# Altium schematic symbol library FM_MCU.SCHLIB: 33 symbols
Pins are listed as number, name and electrical type; pins without a type are passive.

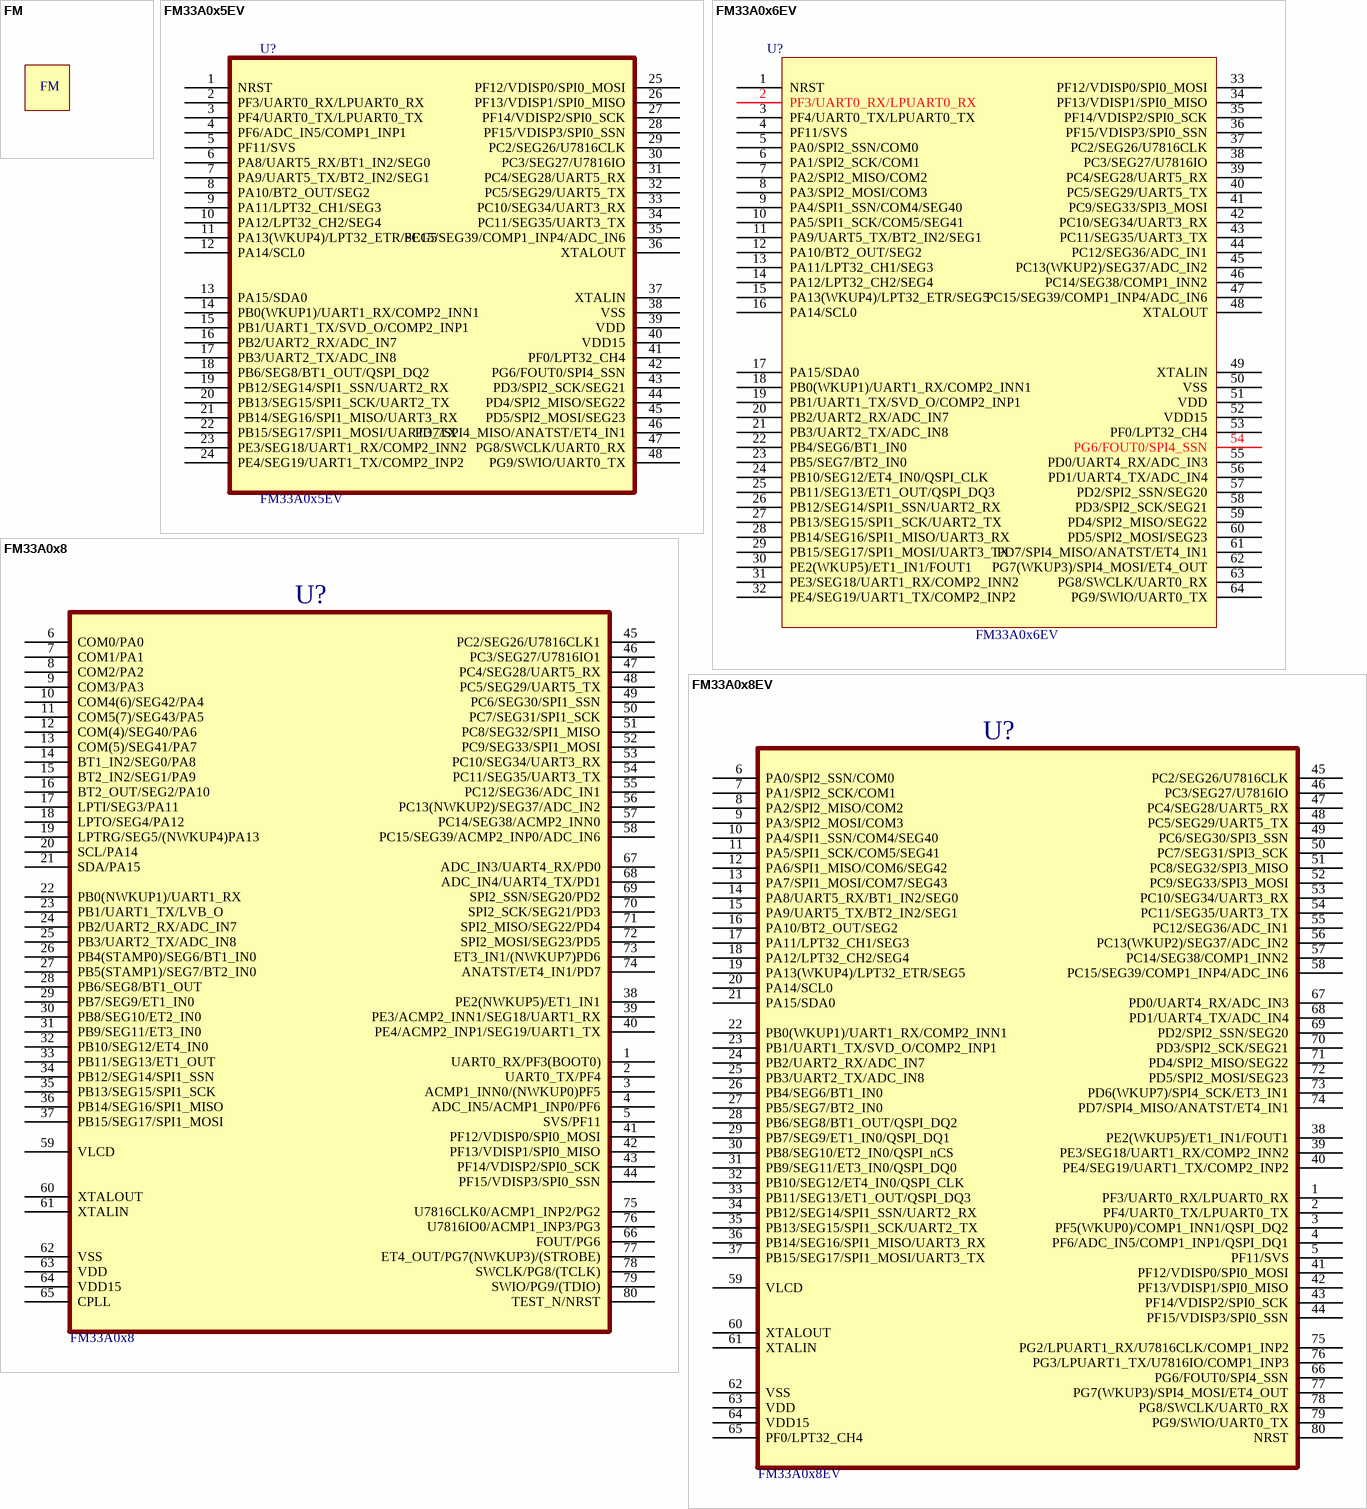
[diagram p0: symbols FM to FM33A0x8EV]

## FM
designator U?, comment FM-LOGO
footprint FM-LOGO

## FM33A0x5EV
designator U?
footprint LQFP48
pins: 1 NRST, 2 PF3/UART0_RX/LPUART0_RX, 3 PF4/UART0_TX/LPUART0_TX, 4 PF6/ADC_IN5/COMP1_INP1, 5 PF11/SVS, 6 PA8/UART5_RX/BT1_IN2/SEG0, 7 PA9/UART5_TX/BT2_IN2/SEG1, 8 PA10/BT2_OUT/SEG2, 9 PA11/LPT32_CH1/SEG3, 10 PA12/LPT32_CH2/SEG4, 11 PA13(WKUP4)/LPT32_ETR/SEG5, 12 PA14/SCL0, 13 PA15/SDA0, 14 PB0(WKUP1)/UART1_RX/COMP2_INN1, 15 PB1/UART1_TX/SVD_O/COMP2_INP1, 16 PB2/UART2_RX/ADC_IN7, 17 PB3/UART2_TX/ADC_IN8, 18 PB6/SEG8/BT1_OUT/QSPI_DQ2, 19 PB12/SEG14/SPI1_SSN/UART2_RX, 20 PB13/SEG15/SPI1_SCK/UART2_TX, 21 PB14/SEG16/SPI1_MISO/UART3_RX, 22 PB15/SEG17/SPI1_MOSI/UART3_TX, 23 PE3/SEG18/UART1_RX/COMP2_INN2, 24 PE4/SEG19/UART1_TX/COMP2_INP2, 25 PF12/VDISP0/SPI0_MOSI, 26 PF13/VDISP1/SPI0_MISO, 27 PF14/VDISP2/SPI0_SCK, 28 PF15/VDISP3/SPI0_SSN, 29 PC2/SEG26/U7816CLK, 30 PC3/SEG27/U7816IO, 31 PC4/SEG28/UART5_RX, 32 PC5/SEG29/UART5_TX, 33 PC10/SEG34/UART3_RX, 34 PC11/SEG35/UART3_TX, 35 PC15/SEG39/COMP1_INP4/ADC_IN6, 36 XTALOUT, 37 XTALIN, 38 VSS, 39 VDD, 40 VDD15, 41 PF0/LPT32_CH4, 42 PG6/FOUT0/SPI4_SSN, 43 PD3/SPI2_SCK/SEG21, 44 PD4/SPI2_MISO/SEG22, 45 PD5/SPI2_MOSI/SEG23, 46 PD7/SPI4_MISO/ANATST/ET4_IN1, 47 PG8/SWCLK/UART0_RX, 48 PG9/SWIO/UART0_TX

## FM33A0x6EV
designator U?
footprint LQFP64
pins: 1 NRST, 2 PF3/UART0_RX/LPUART0_RX, 3 PF4/UART0_TX/LPUART0_TX, 4 PF11/SVS, 5 PA0/SPI2_SSN/COM0, 6 PA1/SPI2_SCK/COM1, 7 PA2/SPI2_MISO/COM2, 8 PA3/SPI2_MOSI/COM3, 9 PA4/SPI1_SSN/COM4/SEG40, 10 PA5/SPI1_SCK/COM5/SEG41, 11 PA9/UART5_TX/BT2_IN2/SEG1, 12 PA10/BT2_OUT/SEG2, 13 PA11/LPT32_CH1/SEG3, 14 PA12/LPT32_CH2/SEG4, 15 PA13(WKUP4)/LPT32_ETR/SEG5, 16 PA14/SCL0, 17 PA15/SDA0, 18 PB0(WKUP1)/UART1_RX/COMP2_INN1, 19 PB1/UART1_TX/SVD_O/COMP2_INP1, 20 PB2/UART2_RX/ADC_IN7, 21 PB3/UART2_TX/ADC_IN8, 22 PB4/SEG6/BT1_IN0, 23 PB5/SEG7/BT2_IN0, 24 PB10/SEG12/ET4_IN0/QSPI_CLK, 25 PB11/SEG13/ET1_OUT/QSPI_DQ3, 26 PB12/SEG14/SPI1_SSN/UART2_RX, 27 PB13/SEG15/SPI1_SCK/UART2_TX, 28 PB14/SEG16/SPI1_MISO/UART3_RX, 29 PB15/SEG17/SPI1_MOSI/UART3_TX, 30 PE2(WKUP5)/ET1_IN1/FOUT1, 31 PE3/SEG18/UART1_RX/COMP2_INN2, 32 PE4/SEG19/UART1_TX/COMP2_INP2, 33 PF12/VDISP0/SPI0_MOSI, 34 PF13/VDISP1/SPI0_MISO, 35 PF14/VDISP2/SPI0_SCK, 36 PF15/VDISP3/SPI0_SSN, 37 PC2/SEG26/U7816CLK, 38 PC3/SEG27/U7816IO, 39 PC4/SEG28/UART5_RX, 40 PC5/SEG29/UART5_TX, 41 PC9/SEG33/SPI3_MOSI, 42 PC10/SEG34/UART3_RX, 43 PC11/SEG35/UART3_TX, 44 PC12/SEG36/ADC_IN1, 45 PC13(WKUP2)/SEG37/ADC_IN2, 46 PC14/SEG38/COMP1_INN2, 47 PC15/SEG39/COMP1_INP4/ADC_IN6, 48 XTALOUT, 49 XTALIN, 50 VSS, 51 VDD, 52 VDD15, 53 PF0/LPT32_CH4, 54 PG6/FOUT0/SPI4_SSN, 55 PD0/UART4_RX/ADC_IN3, 56 PD1/UART4_TX/ADC_IN4, 57 PD2/SPI2_SSN/SEG20, 58 PD3/SPI2_SCK/SEG21, 59 PD4/SPI2_MISO/SEG22, 60 PD5/SPI2_MOSI/SEG23, 61 PD7/SPI4_MISO/ANATST/ET4_IN1, 62 PG7(WKUP3)/SPI4_MOSI/ET4_OUT, 63 PG8/SWCLK/UART0_RX, 64 PG9/SWIO/UART0_TX

## FM33A0x8
designator U?
footprint LQFP80
pins: 1 UART0_RX/PF3(BOOT0), 2 UART0_TX/PF4, 3 ACMP1_INN0/(NWKUP0)PF5, 4 ADC_IN5/ACMP1_INP0/PF6, 5 SVS/PF11, 6 COM0/PA0, 7 COM1/PA1, 8 COM2/PA2, 9 COM3/PA3, 10 COM4(6)/SEG42/PA4, 11 COM5(7)/SEG43/PA5, 12 COM(4)/SEG40/PA6, 13 COM(5)/SEG41/PA7, 14 BT1_IN2/SEG0/PA8, 15 BT2_IN2/SEG1/PA9, 16 BT2_OUT/SEG2/PA10, 17 LPTI/SEG3/PA11, 18 LPTO/SEG4/PA12, 19 LPTRG/SEG5/(NWKUP4)PA13, 20 SCL/PA14, 21 SDA/PA15, 22 PB0(NWKUP1)/UART1_RX, 23 PB1/UART1_TX/LVB_O, 24 PB2/UART2_RX/ADC_IN7, 25 PB3/UART2_TX/ADC_IN8, 26 PB4(STAMP0)/SEG6/BT1_IN0, 27 PB5(STAMP1)/SEG7/BT2_IN0, 28 PB6/SEG8/BT1_OUT, 29 PB7/SEG9/ET1_IN0, 30 PB8/SEG10/ET2_IN0, 31 PB9/SEG11/ET3_IN0, 32 PB10/SEG12/ET4_IN0, 33 PB11/SEG13/ET1_OUT, 34 PB12/SEG14/SPI1_SSN, 35 PB13/SEG15/SPI1_SCK, 36 PB14/SEG16/SPI1_MISO, 37 PB15/SEG17/SPI1_MOSI, 38 PE2(NWKUP5)/ET1_IN1, 39 PE3/ACMP2_INN1/SEG18/UART1_RX, 40 PE4/ACMP2_INP1/SEG19/UART1_TX, 41 PF12/VDISP0/SPI0_MOSI, 42 PF13/VDISP1/SPI0_MISO, 43 PF14/VDISP2/SPI0_SCK, 44 PF15/VDISP3/SPI0_SSN, 45 PC2/SEG26/U7816CLK1, 46 PC3/SEG27/U7816IO1, 47 PC4/SEG28/UART5_RX, 48 PC5/SEG29/UART5_TX, 49 PC6/SEG30/SPI1_SSN, 50 PC7/SEG31/SPI1_SCK, 51 PC8/SEG32/SPI1_MISO, 52 PC9/SEG33/SPI1_MOSI, 53 PC10/SEG34/UART3_RX, 54 PC11/SEG35/UART3_TX, 55 PC12/SEG36/ADC_IN1, 56 PC13(NWKUP2)/SEG37/ADC_IN2, 57 PC14/SEG38/ACMP2_INN0, 58 PC15/SEG39/ACMP2_INP0/ADC_IN6, 59 VLCD, 60 XTALOUT, 61 XTALIN, 62 VSS, 63 VDD, 64 VDD15, 65 CPLL, 66 FOUT/PG6, 67 ADC_IN3/UART4_RX/PD0, 68 ADC_IN4/UART4_TX/PD1, 69 SPI2_SSN/SEG20/PD2, 70 SPI2_SCK/SEG21/PD3, 71 SPI2_MISO/SEG22/PD4, 72 SPI2_MOSI/SEG23/PD5, 73 ET3_IN1/(NWKUP7)PD6, 74 ANATST/ET4_IN1/PD7, 75 U7816CLK0/ACMP1_INP2/PG2, 76 U7816IO0/ACMP1_INP3/PG3, 77 ET4_OUT/PG7(NWKUP3)/(STROBE), 78 SWCLK/PG8/(TCLK), 79 SWIO/PG9/(TDIO), 80 TEST_N/NRST

## FM33A0x8EV
designator U?
footprint LQFP80
pins: 1 PF3/UART0_RX/LPUART0_RX, 2 PF4/UART0_TX/LPUART0_TX, 3 PF5(WKUP0)/COMP1_INN1/QSPI_DQ2, 4 PF6/ADC_IN5/COMP1_INP1/QSPI_DQ1, 5 PF11/SVS, 6 PA0/SPI2_SSN/COM0, 7 PA1/SPI2_SCK/COM1, 8 PA2/SPI2_MISO/COM2, 9 PA3/SPI2_MOSI/COM3, 10 PA4/SPI1_SSN/COM4/SEG40, 11 PA5/SPI1_SCK/COM5/SEG41, 12 PA6/SPI1_MISO/COM6/SEG42, 13 PA7/SPI1_MOSI/COM7/SEG43, 14 PA8/UART5_RX/BT1_IN2/SEG0, 15 PA9/UART5_TX/BT2_IN2/SEG1, 16 PA10/BT2_OUT/SEG2, 17 PA11/LPT32_CH1/SEG3, 18 PA12/LPT32_CH2/SEG4, 19 PA13(WKUP4)/LPT32_ETR/SEG5, 20 PA14/SCL0, 21 PA15/SDA0, 22 PB0(WKUP1)/UART1_RX/COMP2_INN1, 23 PB1/UART1_TX/SVD_O/COMP2_INP1, 24 PB2/UART2_RX/ADC_IN7, 25 PB3/UART2_TX/ADC_IN8, 26 PB4/SEG6/BT1_IN0, 27 PB5/SEG7/BT2_IN0, 28 PB6/SEG8/BT1_OUT/QSPI_DQ2, 29 PB7/SEG9/ET1_IN0/QSPI_DQ1, 30 PB8/SEG10/ET2_IN0/QSPI_nCS, 31 PB9/SEG11/ET3_IN0/QSPI_DQ0, 32 PB10/SEG12/ET4_IN0/QSPI_CLK, 33 PB11/SEG13/ET1_OUT/QSPI_DQ3, 34 PB12/SEG14/SPI1_SSN/UART2_RX, 35 PB13/SEG15/SPI1_SCK/UART2_TX, 36 PB14/SEG16/SPI1_MISO/UART3_RX, 37 PB15/SEG17/SPI1_MOSI/UART3_TX, 38 PE2(WKUP5)/ET1_IN1/FOUT1, 39 PE3/SEG18/UART1_RX/COMP2_INN2, 40 PE4/SEG19/UART1_TX/COMP2_INP2, 41 PF12/VDISP0/SPI0_MOSI, 42 PF13/VDISP1/SPI0_MISO, 43 PF14/VDISP2/SPI0_SCK, 44 PF15/VDISP3/SPI0_SSN, 45 PC2/SEG26/U7816CLK, 46 PC3/SEG27/U7816IO, 47 PC4/SEG28/UART5_RX, 48 PC5/SEG29/UART5_TX, 49 PC6/SEG30/SPI3_SSN, 50 PC7/SEG31/SPI3_SCK, 51 PC8/SEG32/SPI3_MISO, 52 PC9/SEG33/SPI3_MOSI, 53 PC10/SEG34/UART3_RX, 54 PC11/SEG35/UART3_TX, 55 PC12/SEG36/ADC_IN1, 56 PC13(WKUP2)/SEG37/ADC_IN2, 57 PC14/SEG38/COMP1_INN2, 58 PC15/SEG39/COMP1_INP4/ADC_IN6, 59 VLCD, 60 XTALOUT, 61 XTALIN, 62 VSS, 63 VDD, 64 VDD15, 65 PF0/LPT32_CH4, 66 PG6/FOUT0/SPI4_SSN, 67 PD0/UART4_RX/ADC_IN3, 68 PD1/UART4_TX/ADC_IN4, 69 PD2/SPI2_SSN/SEG20, 70 PD3/SPI2_SCK/SEG21, 71 PD4/SPI2_MISO/SEG22, 72 PD5/SPI2_MOSI/SEG23, 73 PD6(WKUP7)/SPI4_SCK/ET3_IN1, 74 PD7/SPI4_MISO/ANATST/ET4_IN1, 75 PG2/LPUART1_RX/U7816CLK/COMP1_INP2, 76 PG3/LPUART1_TX/U7816IO/COMP1_INP3, 77 PG7(WKUP3)/SPI4_MOSI/ET4_OUT, 78 PG8/SWCLK/UART0_RX, 79 PG9/SWIO/UART0_TX, 80 NRST

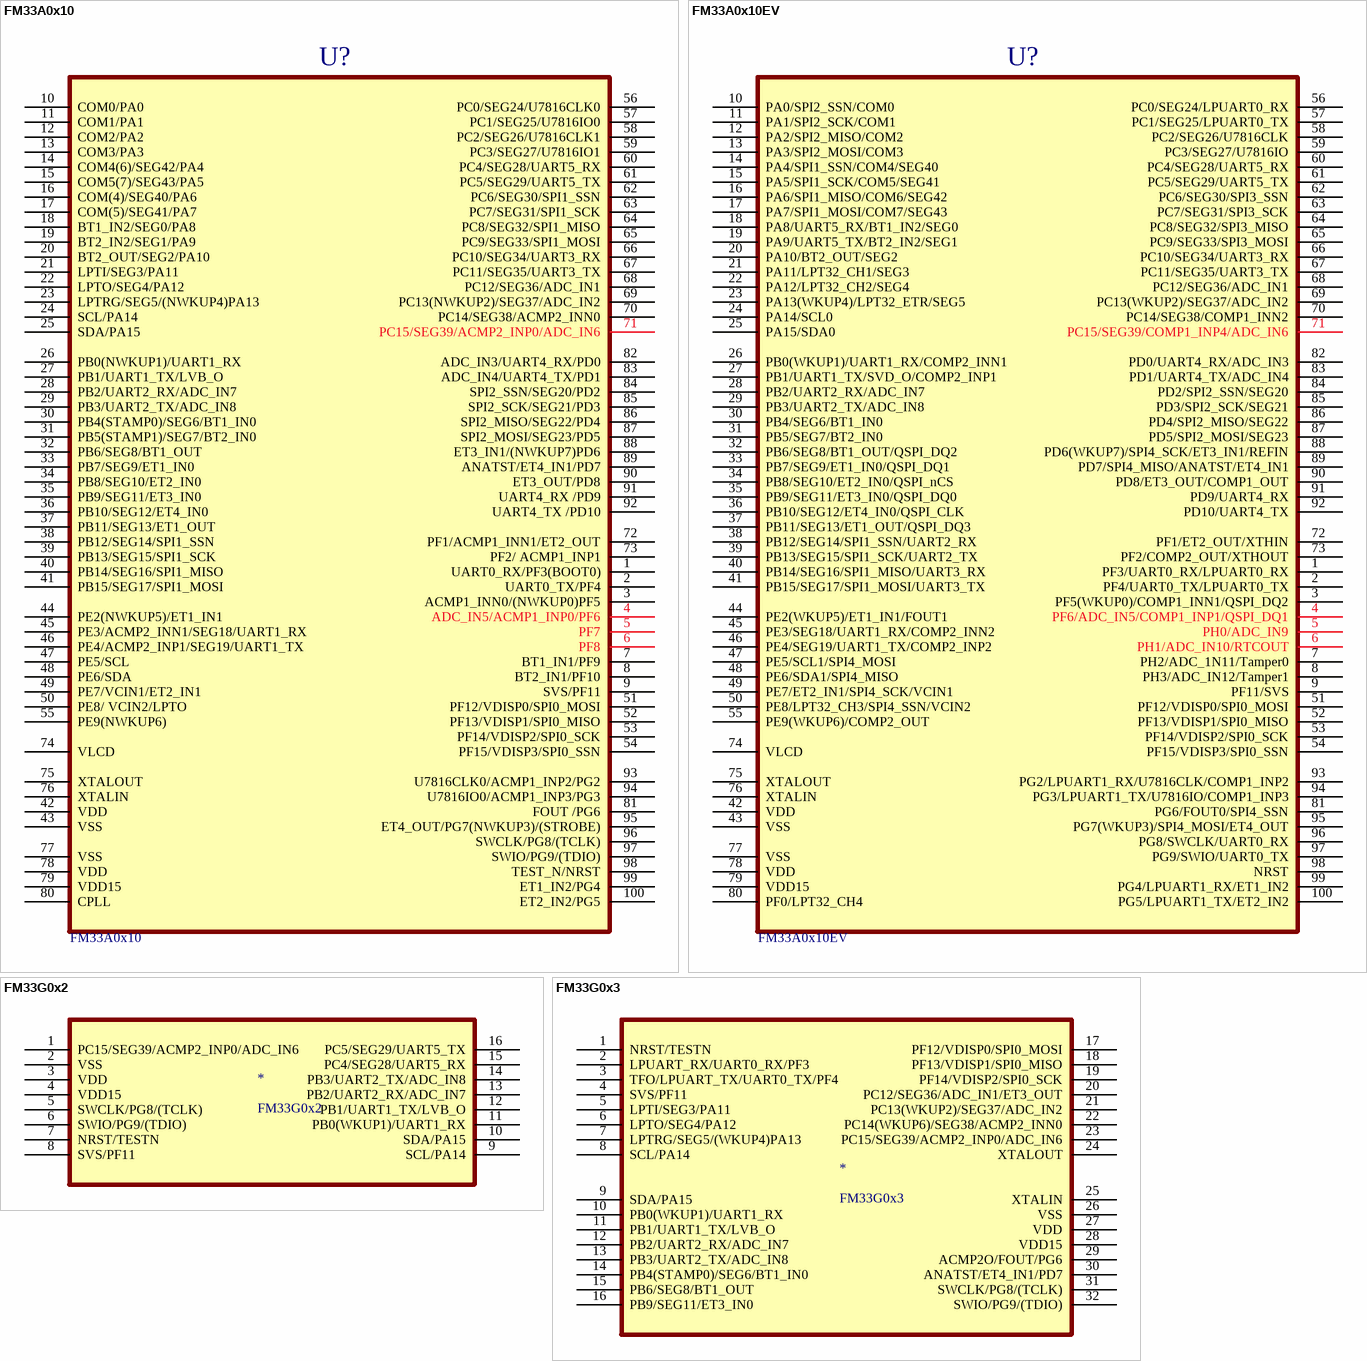
[diagram p1: symbols FM33A0x10 to FM33G0x3]

## FM33A0x10
designator U?
footprint LQFP100
pins: 1 UART0_RX/PF3(BOOT0), 2 UART0_TX/PF4, 3 ACMP1_INN0/(NWKUP0)PF5, 4 ADC_IN5/ACMP1_INP0/PF6, 5 PF7, 6 PF8, 7 BT1_IN1/PF9, 8 BT2_IN1/PF10, 9 SVS/PF11, 10 COM0/PA0, 11 COM1/PA1, 12 COM2/PA2, 13 COM3/PA3, 14 COM4(6)/SEG42/PA4, 15 COM5(7)/SEG43/PA5, 16 COM(4)/SEG40/PA6, 17 COM(5)/SEG41/PA7, 18 BT1_IN2/SEG0/PA8, 19 BT2_IN2/SEG1/PA9, 20 BT2_OUT/SEG2/PA10, 21 LPTI/SEG3/PA11, 22 LPTO/SEG4/PA12, 23 LPTRG/SEG5/(NWKUP4)PA13, 24 SCL/PA14, 25 SDA/PA15, 26 PB0(NWKUP1)/UART1_RX, 27 PB1/UART1_TX/LVB_O, 28 PB2/UART2_RX/ADC_IN7, 29 PB3/UART2_TX/ADC_IN8, 30 PB4(STAMP0)/SEG6/BT1_IN0, 31 PB5(STAMP1)/SEG7/BT2_IN0, 32 PB6/SEG8/BT1_OUT, 33 PB7/SEG9/ET1_IN0, 34 PB8/SEG10/ET2_IN0, 35 PB9/SEG11/ET3_IN0, 36 PB10/SEG12/ET4_IN0, 37 PB11/SEG13/ET1_OUT, 38 PB12/SEG14/SPI1_SSN, 39 PB13/SEG15/SPI1_SCK, 40 PB14/SEG16/SPI1_MISO, 41 PB15/SEG17/SPI1_MOSI, 42 VDD, 43 VSS, 44 PE2(NWKUP5)/ET1_IN1, 45 PE3/ACMP2_INN1/SEG18/UART1_RX, 46 PE4/ACMP2_INP1/SEG19/UART1_TX, 47 PE5/SCL, 48 PE6/SDA, 49 PE7/VCIN1/ET2_IN1, 50 PE8/ VCIN2/LPTO, 51 PF12/VDISP0/SPI0_MOSI, 52 PF13/VDISP1/SPI0_MISO, 53 PF14/VDISP2/SPI0_SCK, 54 PF15/VDISP3/SPI0_SSN, 55 PE9(NWKUP6), 56 PC0/SEG24/U7816CLK0, 57 PC1/SEG25/U7816IO0, 58 PC2/SEG26/U7816CLK1, 59 PC3/SEG27/U7816IO1, 60 PC4/SEG28/UART5_RX, 61 PC5/SEG29/UART5_TX, 62 PC6/SEG30/SPI1_SSN, 63 PC7/SEG31/SPI1_SCK, 64 PC8/SEG32/SPI1_MISO, 65 PC9/SEG33/SPI1_MOSI, 66 PC10/SEG34/UART3_RX, 67 PC11/SEG35/UART3_TX, 68 PC12/SEG36/ADC_IN1, 69 PC13(NWKUP2)/SEG37/ADC_IN2, 70 PC14/SEG38/ACMP2_INN0, 71 PC15/SEG39/ACMP2_INP0/ADC_IN6, 72 PF1/ACMP1_INN1/ET2_OUT, 73 PF2/ ACMP1_INP1, 74 VLCD, 75 XTALOUT, 76 XTALIN, 77 VSS, 78 VDD, 79 VDD15, 80 CPLL, 81 FOUT /PG6, 82 ADC_IN3/UART4_RX/PD0, 83 ADC_IN4/UART4_TX/PD1, 84 SPI2_SSN/SEG20/PD2, 85 SPI2_SCK/SEG21/PD3, 86 SPI2_MISO/SEG22/PD4, 87 SPI2_MOSI/SEG23/PD5, 88 ET3_IN1/(NWKUP7)PD6, 89 ANATST/ET4_IN1/PD7, 90 ET3_OUT/PD8, 91 UART4_RX /PD9, 92 UART4_TX /PD10, 93 U7816CLK0/ACMP1_INP2/PG2, 94 U7816IO0/ACMP1_INP3/PG3, 95 ET4_OUT/PG7(NWKUP3)/(STROBE), 96 SWCLK/PG8/(TCLK), 97 SWIO/PG9/(TDIO), 98 TEST_N/NRST, 99 ET1_IN2/PG4, 100 ET2_IN2/PG5

## FM33A0x10EV
designator U?
footprint LQFP100
pins: 1 PF3/UART0_RX/LPUART0_RX, 2 PF4/UART0_TX/LPUART0_TX, 3 PF5(WKUP0)/COMP1_INN1/QSPI_DQ2, 4 PF6/ADC_IN5/COMP1_INP1/QSPI_DQ1, 5 PH0/ADC_IN9, 6 PH1/ADC_IN10/RTCOUT, 7 PH2/ADC_1N11/Tamper0, 8 PH3/ADC_IN12/Tamper1, 9 PF11/SVS, 10 PA0/SPI2_SSN/COM0, 11 PA1/SPI2_SCK/COM1, 12 PA2/SPI2_MISO/COM2, 13 PA3/SPI2_MOSI/COM3, 14 PA4/SPI1_SSN/COM4/SEG40, 15 PA5/SPI1_SCK/COM5/SEG41, 16 PA6/SPI1_MISO/COM6/SEG42, 17 PA7/SPI1_MOSI/COM7/SEG43, 18 PA8/UART5_RX/BT1_IN2/SEG0, 19 PA9/UART5_TX/BT2_IN2/SEG1, 20 PA10/BT2_OUT/SEG2, 21 PA11/LPT32_CH1/SEG3, 22 PA12/LPT32_CH2/SEG4, 23 PA13(WKUP4)/LPT32_ETR/SEG5, 24 PA14/SCL0, 25 PA15/SDA0, 26 PB0(WKUP1)/UART1_RX/COMP2_INN1, 27 PB1/UART1_TX/SVD_O/COMP2_INP1, 28 PB2/UART2_RX/ADC_IN7, 29 PB3/UART2_TX/ADC_IN8, 30 PB4/SEG6/BT1_IN0, 31 PB5/SEG7/BT2_IN0, 32 PB6/SEG8/BT1_OUT/QSPI_DQ2, 33 PB7/SEG9/ET1_IN0/QSPI_DQ1, 34 PB8/SEG10/ET2_IN0/QSPI_nCS, 35 PB9/SEG11/ET3_IN0/QSPI_DQ0, 36 PB10/SEG12/ET4_IN0/QSPI_CLK, 37 PB11/SEG13/ET1_OUT/QSPI_DQ3, 38 PB12/SEG14/SPI1_SSN/UART2_RX, 39 PB13/SEG15/SPI1_SCK/UART2_TX, 40 PB14/SEG16/SPI1_MISO/UART3_RX, 41 PB15/SEG17/SPI1_MOSI/UART3_TX, 42 VDD, 43 VSS, 44 PE2(WKUP5)/ET1_IN1/FOUT1, 45 PE3/SEG18/UART1_RX/COMP2_INN2, 46 PE4/SEG19/UART1_TX/COMP2_INP2, 47 PE5/SCL1/SPI4_MOSI, 48 PE6/SDA1/SPI4_MISO, 49 PE7/ET2_IN1/SPI4_SCK/VCIN1, 50 PE8/LPT32_CH3/SPI4_SSN/VCIN2, 51 PF12/VDISP0/SPI0_MOSI, 52 PF13/VDISP1/SPI0_MISO, 53 PF14/VDISP2/SPI0_SCK, 54 PF15/VDISP3/SPI0_SSN, 55 PE9(WKUP6)/COMP2_OUT, 56 PC0/SEG24/LPUART0_RX, 57 PC1/SEG25/LPUART0_TX, 58 PC2/SEG26/U7816CLK, 59 PC3/SEG27/U7816IO, 60 PC4/SEG28/UART5_RX, 61 PC5/SEG29/UART5_TX, 62 PC6/SEG30/SPI3_SSN, 63 PC7/SEG31/SPI3_SCK, 64 PC8/SEG32/SPI3_MISO, 65 PC9/SEG33/SPI3_MOSI, 66 PC10/SEG34/UART3_RX, 67 PC11/SEG35/UART3_TX, 68 PC12/SEG36/ADC_IN1, 69 PC13(WKUP2)/SEG37/ADC_IN2, 70 PC14/SEG38/COMP1_INN2, 71 PC15/SEG39/COMP1_INP4/ADC_IN6, 72 PF1/ET2_OUT/XTHIN, 73 PF2/COMP2_OUT/XTHOUT, 74 VLCD, 75 XTALOUT, 76 XTALIN, 77 VSS, 78 VDD, 79 VDD15, 80 PF0/LPT32_CH4, 81 PG6/FOUT0/SPI4_SSN, 82 PD0/UART4_RX/ADC_IN3, 83 PD1/UART4_TX/ADC_IN4, 84 PD2/SPI2_SSN/SEG20, 85 PD3/SPI2_SCK/SEG21, 86 PD4/SPI2_MISO/SEG22, 87 PD5/SPI2_MOSI/SEG23, 88 PD6(WKUP7)/SPI4_SCK/ET3_IN1/REFIN, 89 PD7/SPI4_MISO/ANATST/ET4_IN1, 90 PD8/ET3_OUT/COMP1_OUT, 91 PD9/UART4_RX, 92 PD10/UART4_TX, 93 PG2/LPUART1_RX/U7816CLK/COMP1_INP2, 94 PG3/LPUART1_TX/U7816IO/COMP1_INP3, 95 PG7(WKUP3)/SPI4_MOSI/ET4_OUT, 96 PG8/SWCLK/UART0_RX, 97 PG9/SWIO/UART0_TX, 98 NRST, 99 PG4/LPUART1_RX/ET1_IN2, 100 PG5/LPUART1_TX/ET2_IN2

## FM33G0x2
designator *
pins: 1 PC15/SEG39/ACMP2_INP0/ADC_IN6, 2 VSS, 3 VDD, 4 VDD15, 5 SWCLK/PG8/(TCLK), 6 SWIO/PG9/(TDIO), 7 NRST/TESTN, 8 SVS/PF11, 9 SCL/PA14, 10 SDA/PA15, 11 PB0(WKUP1)/UART1_RX, 12 PB1/UART1_TX/LVB_O, 13 PB2/UART2_RX/ADC_IN7, 14 PB3/UART2_TX/ADC_IN8, 15 PC4/SEG28/UART5_RX, 16 PC5/SEG29/UART5_TX

## FM33G0x3
designator *
pins: 1 NRST/TESTN, 2 LPUART_RX/UART0_RX/PF3, 3 TFO/LPUART_TX/UART0_TX/PF4, 4 SVS/PF11, 5 LPTI/SEG3/PA11, 6 LPTO/SEG4/PA12, 7 LPTRG/SEG5/(WKUP4)PA13, 8 SCL/PA14, 9 SDA/PA15, 10 PB0(WKUP1)/UART1_RX, 11 PB1/UART1_TX/LVB_O, 12 PB2/UART2_RX/ADC_IN7, 13 PB3/UART2_TX/ADC_IN8, 14 PB4(STAMP0)/SEG6/BT1_IN0, 15 PB6/SEG8/BT1_OUT, 16 PB9/SEG11/ET3_IN0, 17 PF12/VDISP0/SPI0_MOSI, 18 PF13/VDISP1/SPI0_MISO, 19 PF14/VDISP2/SPI0_SCK, 20 PC12/SEG36/ADC_IN1/ET3_OUT, 21 PC13(WKUP2)/SEG37/ADC_IN2, 22 PC14(WKUP6)/SEG38/ACMP2_INN0, 23 PC15/SEG39/ACMP2_INP0/ADC_IN6, 24 XTALOUT, 25 XTALIN, 26 VSS, 27 VDD, 28 VDD15, 29 ACMP2O/FOUT/PG6, 30 ANATST/ET4_IN1/PD7, 31 SWCLK/PG8/(TCLK), 32 SWIO/PG9/(TDIO)

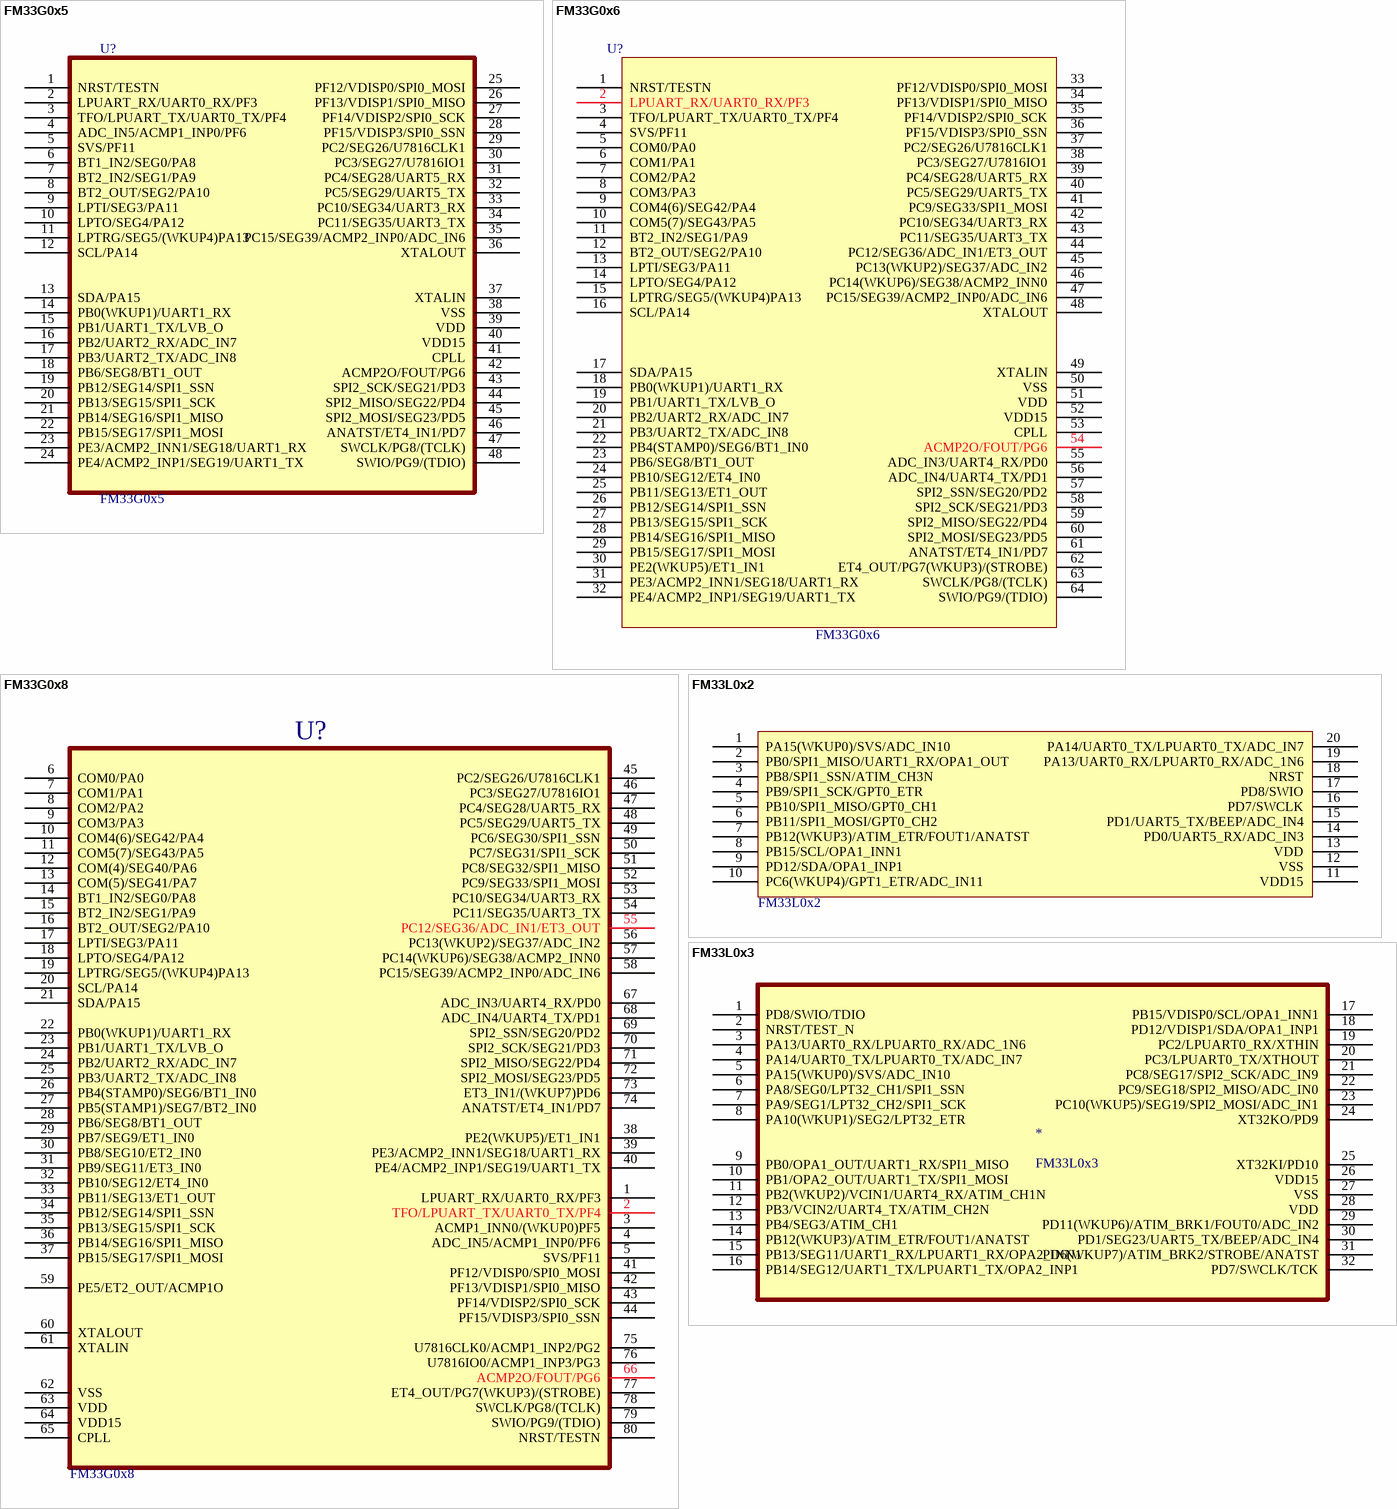
[diagram p2: symbols FM33G0x5 to FM33L0x3]

## FM33G0x5
designator U?
footprint LQFP48
pins: 1 NRST/TESTN, 2 LPUART_RX/UART0_RX/PF3, 3 TFO/LPUART_TX/UART0_TX/PF4, 4 ADC_IN5/ACMP1_INP0/PF6, 5 SVS/PF11, 6 BT1_IN2/SEG0/PA8, 7 BT2_IN2/SEG1/PA9, 8 BT2_OUT/SEG2/PA10, 9 LPTI/SEG3/PA11, 10 LPTO/SEG4/PA12, 11 LPTRG/SEG5/(WKUP4)PA13, 12 SCL/PA14, 13 SDA/PA15, 14 PB0(WKUP1)/UART1_RX, 15 PB1/UART1_TX/LVB_O, 16 PB2/UART2_RX/ADC_IN7, 17 PB3/UART2_TX/ADC_IN8, 18 PB6/SEG8/BT1_OUT, 19 PB12/SEG14/SPI1_SSN, 20 PB13/SEG15/SPI1_SCK, 21 PB14/SEG16/SPI1_MISO, 22 PB15/SEG17/SPI1_MOSI, 23 PE3/ACMP2_INN1/SEG18/UART1_RX, 24 PE4/ACMP2_INP1/SEG19/UART1_TX, 25 PF12/VDISP0/SPI0_MOSI, 26 PF13/VDISP1/SPI0_MISO, 27 PF14/VDISP2/SPI0_SCK, 28 PF15/VDISP3/SPI0_SSN, 29 PC2/SEG26/U7816CLK1, 30 PC3/SEG27/U7816IO1, 31 PC4/SEG28/UART5_RX, 32 PC5/SEG29/UART5_TX, 33 PC10/SEG34/UART3_RX, 34 PC11/SEG35/UART3_TX, 35 PC15/SEG39/ACMP2_INP0/ADC_IN6, 36 XTALOUT, 37 XTALIN, 38 VSS, 39 VDD, 40 VDD15, 41 CPLL, 42 ACMP2O/FOUT/PG6, 43 SPI2_SCK/SEG21/PD3, 44 SPI2_MISO/SEG22/PD4, 45 SPI2_MOSI/SEG23/PD5, 46 ANATST/ET4_IN1/PD7, 47 SWCLK/PG8/(TCLK), 48 SWIO/PG9/(TDIO)

## FM33G0x6
designator U?
footprint LQFP64
pins: 1 NRST/TESTN, 2 LPUART_RX/UART0_RX/PF3, 3 TFO/LPUART_TX/UART0_TX/PF4, 4 SVS/PF11, 5 COM0/PA0, 6 COM1/PA1, 7 COM2/PA2, 8 COM3/PA3, 9 COM4(6)/SEG42/PA4, 10 COM5(7)/SEG43/PA5, 11 BT2_IN2/SEG1/PA9, 12 BT2_OUT/SEG2/PA10, 13 LPTI/SEG3/PA11, 14 LPTO/SEG4/PA12, 15 LPTRG/SEG5/(WKUP4)PA13, 16 SCL/PA14, 17 SDA/PA15, 18 PB0(WKUP1)/UART1_RX, 19 PB1/UART1_TX/LVB_O, 20 PB2/UART2_RX/ADC_IN7, 21 PB3/UART2_TX/ADC_IN8, 22 PB4(STAMP0)/SEG6/BT1_IN0, 23 PB6/SEG8/BT1_OUT, 24 PB10/SEG12/ET4_IN0, 25 PB11/SEG13/ET1_OUT, 26 PB12/SEG14/SPI1_SSN, 27 PB13/SEG15/SPI1_SCK, 28 PB14/SEG16/SPI1_MISO, 29 PB15/SEG17/SPI1_MOSI, 30 PE2(WKUP5)/ET1_IN1, 31 PE3/ACMP2_INN1/SEG18/UART1_RX, 32 PE4/ACMP2_INP1/SEG19/UART1_TX, 33 PF12/VDISP0/SPI0_MOSI, 34 PF13/VDISP1/SPI0_MISO, 35 PF14/VDISP2/SPI0_SCK, 36 PF15/VDISP3/SPI0_SSN, 37 PC2/SEG26/U7816CLK1, 38 PC3/SEG27/U7816IO1, 39 PC4/SEG28/UART5_RX, 40 PC5/SEG29/UART5_TX, 41 PC9/SEG33/SPI1_MOSI, 42 PC10/SEG34/UART3_RX, 43 PC11/SEG35/UART3_TX, 44 PC12/SEG36/ADC_IN1/ET3_OUT, 45 PC13(WKUP2)/SEG37/ADC_IN2, 46 PC14(WKUP6)/SEG38/ACMP2_INN0, 47 PC15/SEG39/ACMP2_INP0/ADC_IN6, 48 XTALOUT, 49 XTALIN, 50 VSS, 51 VDD, 52 VDD15, 53 CPLL, 54 ACMP2O/FOUT/PG6, 55 ADC_IN3/UART4_RX/PD0, 56 ADC_IN4/UART4_TX/PD1, 57 SPI2_SSN/SEG20/PD2, 58 SPI2_SCK/SEG21/PD3, 59 SPI2_MISO/SEG22/PD4, 60 SPI2_MOSI/SEG23/PD5, 61 ANATST/ET4_IN1/PD7, 62 ET4_OUT/PG7(WKUP3)/(STROBE), 63 SWCLK/PG8/(TCLK), 64 SWIO/PG9/(TDIO)

## FM33G0x8
designator U?
footprint LQFP80
pins: 1 LPUART_RX/UART0_RX/PF3, 2 TFO/LPUART_TX/UART0_TX/PF4, 3 ACMP1_INN0/(WKUP0)PF5, 4 ADC_IN5/ACMP1_INP0/PF6, 5 SVS/PF11, 6 COM0/PA0, 7 COM1/PA1, 8 COM2/PA2, 9 COM3/PA3, 10 COM4(6)/SEG42/PA4, 11 COM5(7)/SEG43/PA5, 12 COM(4)/SEG40/PA6, 13 COM(5)/SEG41/PA7, 14 BT1_IN2/SEG0/PA8, 15 BT2_IN2/SEG1/PA9, 16 BT2_OUT/SEG2/PA10, 17 LPTI/SEG3/PA11, 18 LPTO/SEG4/PA12, 19 LPTRG/SEG5/(WKUP4)PA13, 20 SCL/PA14, 21 SDA/PA15, 22 PB0(WKUP1)/UART1_RX, 23 PB1/UART1_TX/LVB_O, 24 PB2/UART2_RX/ADC_IN7, 25 PB3/UART2_TX/ADC_IN8, 26 PB4(STAMP0)/SEG6/BT1_IN0, 27 PB5(STAMP1)/SEG7/BT2_IN0, 28 PB6/SEG8/BT1_OUT, 29 PB7/SEG9/ET1_IN0, 30 PB8/SEG10/ET2_IN0, 31 PB9/SEG11/ET3_IN0, 32 PB10/SEG12/ET4_IN0, 33 PB11/SEG13/ET1_OUT, 34 PB12/SEG14/SPI1_SSN, 35 PB13/SEG15/SPI1_SCK, 36 PB14/SEG16/SPI1_MISO, 37 PB15/SEG17/SPI1_MOSI, 38 PE2(WKUP5)/ET1_IN1, 39 PE3/ACMP2_INN1/SEG18/UART1_RX, 40 PE4/ACMP2_INP1/SEG19/UART1_TX, 41 PF12/VDISP0/SPI0_MOSI, 42 PF13/VDISP1/SPI0_MISO, 43 PF14/VDISP2/SPI0_SCK, 44 PF15/VDISP3/SPI0_SSN, 45 PC2/SEG26/U7816CLK1, 46 PC3/SEG27/U7816IO1, 47 PC4/SEG28/UART5_RX, 48 PC5/SEG29/UART5_TX, 49 PC6/SEG30/SPI1_SSN, 50 PC7/SEG31/SPI1_SCK, 51 PC8/SEG32/SPI1_MISO, 52 PC9/SEG33/SPI1_MOSI, 53 PC10/SEG34/UART3_RX, 54 PC11/SEG35/UART3_TX, 55 PC12/SEG36/ADC_IN1/ET3_OUT, 56 PC13(WKUP2)/SEG37/ADC_IN2, 57 PC14(WKUP6)/SEG38/ACMP2_INN0, 58 PC15/SEG39/ACMP2_INP0/ADC_IN6, 59 PE5/ET2_OUT/ACMP1O, 60 XTALOUT, 61 XTALIN, 62 VSS, 63 VDD, 64 VDD15, 65 CPLL, 66 ACMP2O/FOUT/PG6, 67 ADC_IN3/UART4_RX/PD0, 68 ADC_IN4/UART4_TX/PD1, 69 SPI2_SSN/SEG20/PD2, 70 SPI2_SCK/SEG21/PD3, 71 SPI2_MISO/SEG22/PD4, 72 SPI2_MOSI/SEG23/PD5, 73 ET3_IN1/(WKUP7)PD6, 74 ANATST/ET4_IN1/PD7, 75 U7816CLK0/ACMP1_INP2/PG2, 76 U7816IO0/ACMP1_INP3/PG3, 77 ET4_OUT/PG7(WKUP3)/(STROBE), 78 SWCLK/PG8/(TCLK), 79 SWIO/PG9/(TDIO), 80 NRST/TESTN

## FM33L0x2
designator ?
pins: 1 PA15(WKUP0)/SVS/ADC_IN10, 2 PB0/SPI1_MISO/UART1_RX/OPA1_OUT, 3 PB8/SPI1_SSN/ATIM_CH3N, 4 PB9/SPI1_SCK/GPT0_ETR, 5 PB10/SPI1_MISO/GPT0_CH1, 6 PB11/SPI1_MOSI/GPT0_CH2, 7 PB12(WKUP3)/ATIM_ETR/FOUT1/ANATST, 8 PB15/SCL/OPA1_INN1, 9 PD12/SDA/OPA1_INP1, 10 PC6(WKUP4)/GPT1_ETR/ADC_IN11, 11 VDD15, 12 VSS, 13 VDD, 14 PD0/UART5_RX/ADC_IN3, 15 PD1/UART5_TX/BEEP/ADC_IN4, 16 PD7/SWCLK, 17 PD8/SWIO, 18 NRST, 19 PA13/UART0_RX/LPUART0_RX/ADC_1N6, 20 PA14/UART0_TX/LPUART0_TX/ADC_IN7

## FM33L0x3
designator *
pins: 1 PD8/SWIO/TDIO, 2 NRST/TEST_N, 3 PA13/UART0_RX/LPUART0_RX/ADC_1N6, 4 PA14/UART0_TX/LPUART0_TX/ADC_IN7, 5 PA15(WKUP0)/SVS/ADC_IN10, 6 PA8/SEG0/LPT32_CH1/SPI1_SSN, 7 PA9/SEG1/LPT32_CH2/SPI1_SCK, 8 PA10(WKUP1)/SEG2/LPT32_ETR, 9 PB0/OPA1_OUT/UART1_RX/SPI1_MISO, 10 PB1/OPA2_OUT/UART1_TX/SPI1_MOSI, 11 PB2(WKUP2)/VCIN1/UART4_RX/ATIM_CH1N, 12 PB3/VCIN2/UART4_TX/ATIM_CH2N, 13 PB4/SEG3/ATIM_CH1, 14 PB12(WKUP3)/ATIM_ETR/FOUT1/ANATST, 15 PB13/SEG11/UART1_RX/LPUART1_RX/OPA2_INN1, 16 PB14/SEG12/UART1_TX/LPUART1_TX/OPA2_INP1, 17 PB15/VDISP0/SCL/OPA1_INN1, 18 PD12/VDISP1/SDA/OPA1_INP1, 19 PC2/LPUART0_RX/XTHIN, 20 PC3/LPUART0_TX/XTHOUT, 21 PC8/SEG17/SPI2_SCK/ADC_IN9, 22 PC9/SEG18/SPI2_MISO/ADC_IN0, 23 PC10(WKUP5)/SEG19/SPI2_MOSI/ADC_IN1, 24 XT32KO/PD9, 25 XT32KI/PD10, 26 VDD15, 27 VSS, 28 VDD, 29 PD11(WKUP6)/ATIM_BRK1/FOUT0/ADC_IN2, 30 PD1/SEG23/UART5_TX/BEEP/ADC_IN4, 31 PD6(WKUP7)/ATIM_BRK2/STROBE/ANATST, 32 PD7/SWCLK/TCK

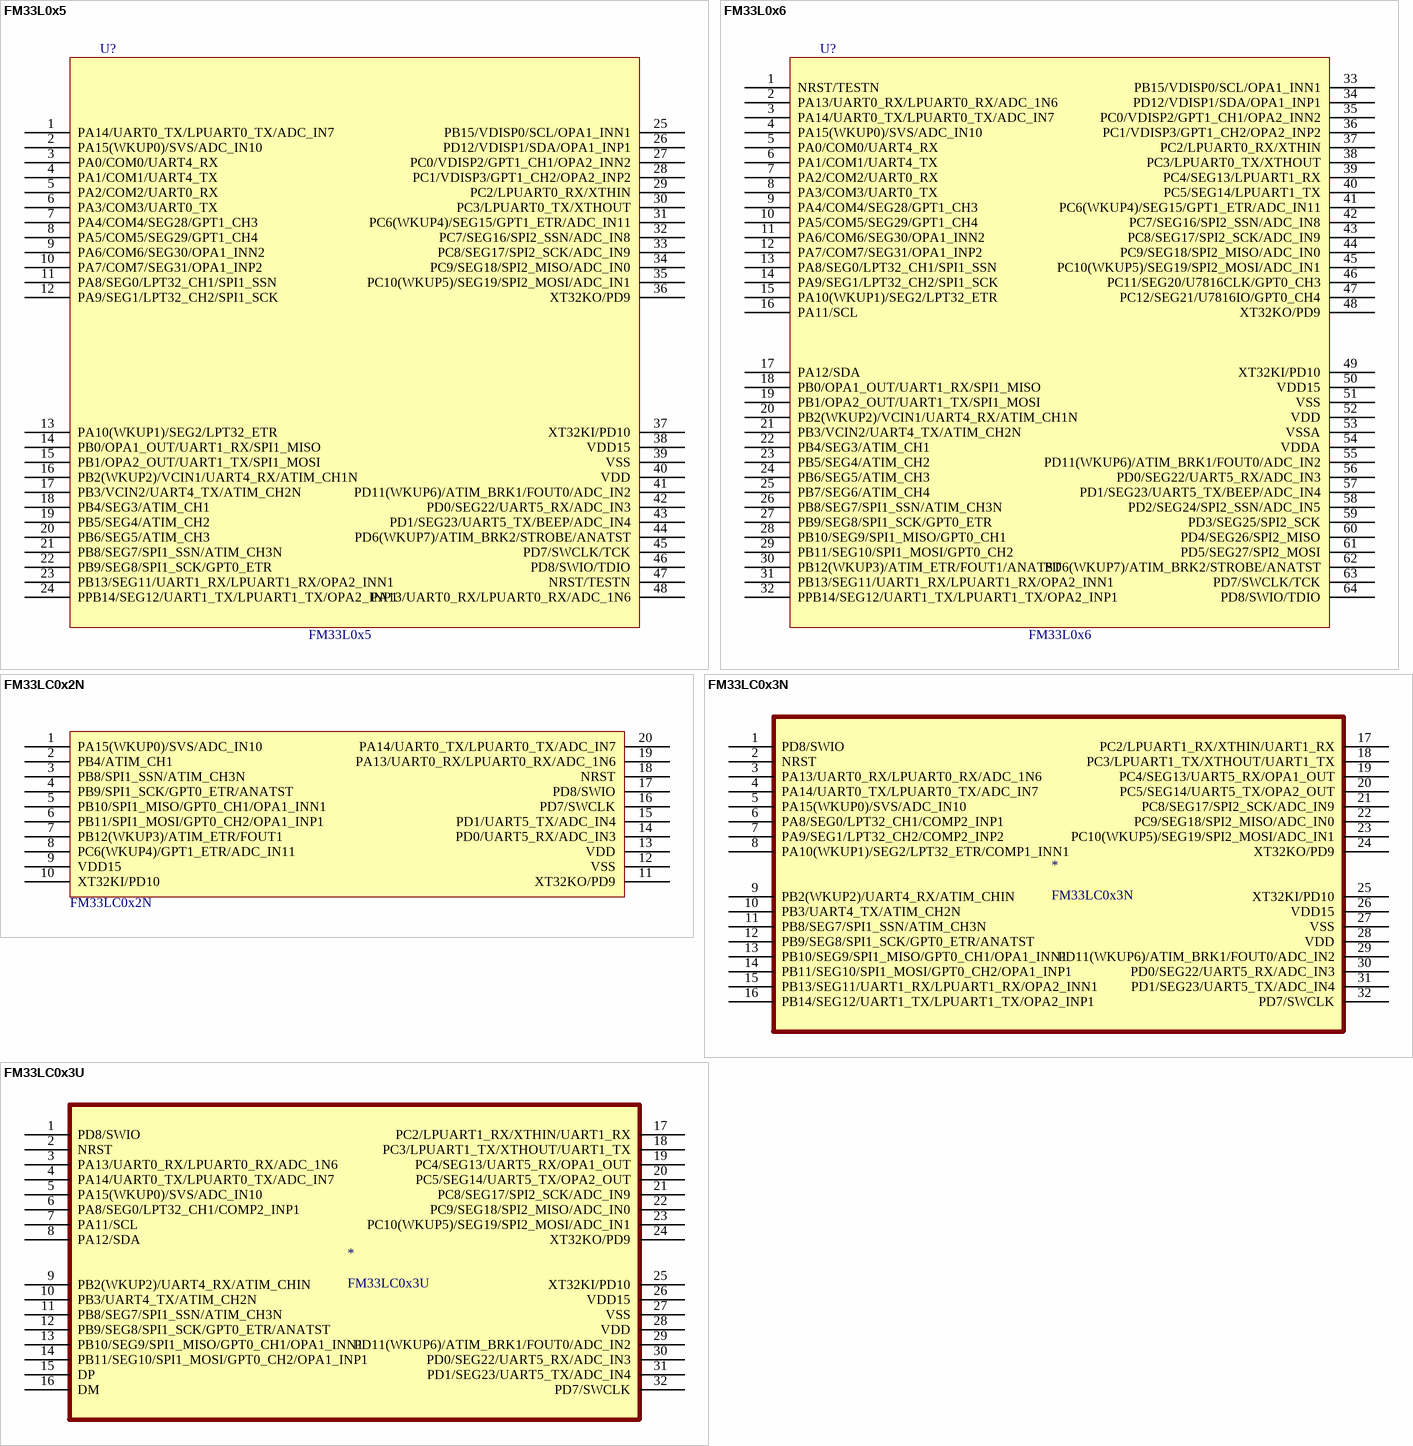
[diagram p3: symbols FM33L0x5 to FM33LC0x3U]

## FM33L0x5
designator U?
pins: 1 PA14/UART0_TX/LPUART0_TX/ADC_IN7, 2 PA15(WKUP0)/SVS/ADC_IN10, 3 PA0/COM0/UART4_RX, 4 PA1/COM1/UART4_TX, 5 PA2/COM2/UART0_RX, 6 PA3/COM3/UART0_TX, 7 PA4/COM4/SEG28/GPT1_CH3, 8 PA5/COM5/SEG29/GPT1_CH4, 9 PA6/COM6/SEG30/OPA1_INN2, 10 PA7/COM7/SEG31/OPA1_INP2, 11 PA8/SEG0/LPT32_CH1/SPI1_SSN, 12 PA9/SEG1/LPT32_CH2/SPI1_SCK, 13 PA10(WKUP1)/SEG2/LPT32_ETR, 14 PB0/OPA1_OUT/UART1_RX/SPI1_MISO, 15 PB1/OPA2_OUT/UART1_TX/SPI1_MOSI, 16 PB2(WKUP2)/VCIN1/UART4_RX/ATIM_CH1N, 17 PB3/VCIN2/UART4_TX/ATIM_CH2N, 18 PB4/SEG3/ATIM_CH1, 19 PB5/SEG4/ATIM_CH2, 20 PB6/SEG5/ATIM_CH3, 21 PB8/SEG7/SPI1_SSN/ATIM_CH3N, 22 PB9/SEG8/SPI1_SCK/GPT0_ETR, 23 PB13/SEG11/UART1_RX/LPUART1_RX/OPA2_INN1, 24 PPB14/SEG12/UART1_TX/LPUART1_TX/OPA2_INP1, 25 PB15/VDISP0/SCL/OPA1_INN1, 26 PD12/VDISP1/SDA/OPA1_INP1, 27 PC0/VDISP2/GPT1_CH1/OPA2_INN2, 28 PC1/VDISP3/GPT1_CH2/OPA2_INP2, 29 PC2/LPUART0_RX/XTHIN, 30 PC3/LPUART0_TX/XTHOUT, 31 PC6(WKUP4)/SEG15/GPT1_ETR/ADC_IN11, 32 PC7/SEG16/SPI2_SSN/ADC_IN8, 33 PC8/SEG17/SPI2_SCK/ADC_IN9, 34 PC9/SEG18/SPI2_MISO/ADC_IN0, 35 PC10(WKUP5)/SEG19/SPI2_MOSI/ADC_IN1, 36 XT32KO/PD9, 37 XT32KI/PD10, 38 VDD15, 39 VSS, 40 VDD, 41 PD11(WKUP6)/ATIM_BRK1/FOUT0/ADC_IN2, 42 PD0/SEG22/UART5_RX/ADC_IN3, 43 PD1/SEG23/UART5_TX/BEEP/ADC_IN4, 44 PD6(WKUP7)/ATIM_BRK2/STROBE/ANATST, 45 PD7/SWCLK/TCK, 46 PD8/SWIO/TDIO, 47 NRST/TESTN, 48 PA13/UART0_RX/LPUART0_RX/ADC_1N6

## FM33L0x6
designator U?
footprint LQFP64
pins: 1 NRST/TESTN, 2 PA13/UART0_RX/LPUART0_RX/ADC_1N6, 3 PA14/UART0_TX/LPUART0_TX/ADC_IN7, 4 PA15(WKUP0)/SVS/ADC_IN10, 5 PA0/COM0/UART4_RX, 6 PA1/COM1/UART4_TX, 7 PA2/COM2/UART0_RX, 8 PA3/COM3/UART0_TX, 9 PA4/COM4/SEG28/GPT1_CH3, 10 PA5/COM5/SEG29/GPT1_CH4, 11 PA6/COM6/SEG30/OPA1_INN2, 12 PA7/COM7/SEG31/OPA1_INP2, 13 PA8/SEG0/LPT32_CH1/SPI1_SSN, 14 PA9/SEG1/LPT32_CH2/SPI1_SCK, 15 PA10(WKUP1)/SEG2/LPT32_ETR, 16 PA11/SCL, 17 PA12/SDA, 18 PB0/OPA1_OUT/UART1_RX/SPI1_MISO, 19 PB1/OPA2_OUT/UART1_TX/SPI1_MOSI, 20 PB2(WKUP2)/VCIN1/UART4_RX/ATIM_CH1N, 21 PB3/VCIN2/UART4_TX/ATIM_CH2N, 22 PB4/SEG3/ATIM_CH1, 23 PB5/SEG4/ATIM_CH2, 24 PB6/SEG5/ATIM_CH3, 25 PB7/SEG6/ATIM_CH4, 26 PB8/SEG7/SPI1_SSN/ATIM_CH3N, 27 PB9/SEG8/SPI1_SCK/GPT0_ETR, 28 PB10/SEG9/SPI1_MISO/GPT0_CH1, 29 PB11/SEG10/SPI1_MOSI/GPT0_CH2, 30 PB12(WKUP3)/ATIM_ETR/FOUT1/ANATST, 31 PB13/SEG11/UART1_RX/LPUART1_RX/OPA2_INN1, 32 PPB14/SEG12/UART1_TX/LPUART1_TX/OPA2_INP1, 33 PB15/VDISP0/SCL/OPA1_INN1, 34 PD12/VDISP1/SDA/OPA1_INP1, 35 PC0/VDISP2/GPT1_CH1/OPA2_INN2, 36 PC1/VDISP3/GPT1_CH2/OPA2_INP2, 37 PC2/LPUART0_RX/XTHIN, 38 PC3/LPUART0_TX/XTHOUT, 39 PC4/SEG13/LPUART1_RX, 40 PC5/SEG14/LPUART1_TX, 41 PC6(WKUP4)/SEG15/GPT1_ETR/ADC_IN11, 42 PC7/SEG16/SPI2_SSN/ADC_IN8, 43 PC8/SEG17/SPI2_SCK/ADC_IN9, 44 PC9/SEG18/SPI2_MISO/ADC_IN0, 45 PC10(WKUP5)/SEG19/SPI2_MOSI/ADC_IN1, 46 PC11/SEG20/U7816CLK/GPT0_CH3, 47 PC12/SEG21/U7816IO/GPT0_CH4, 48 XT32KO/PD9, 49 XT32KI/PD10, 50 VDD15, 51 VSS, 52 VDD, 53 VSSA, 54 VDDA, 55 PD11(WKUP6)/ATIM_BRK1/FOUT0/ADC_IN2, 56 PD0/SEG22/UART5_RX/ADC_IN3, 57 PD1/SEG23/UART5_TX/BEEP/ADC_IN4, 58 PD2/SEG24/SPI2_SSN/ADC_IN5, 59 PD3/SEG25/SPI2_SCK, 60 PD4/SEG26/SPI2_MISO, 61 PD5/SEG27/SPI2_MOSI, 62 PD6(WKUP7)/ATIM_BRK2/STROBE/ANATST, 63 PD7/SWCLK/TCK, 64 PD8/SWIO/TDIO

## FM33LC0x2N
designator ?
pins: 1 PA15(WKUP0)/SVS/ADC_IN10, 2 PB4/ATIM_CH1, 3 PB8/SPI1_SSN/ATIM_CH3N, 4 PB9/SPI1_SCK/GPT0_ETR/ANATST  , 5 PB10/SPI1_MISO/GPT0_CH1/OPA1_INN1, 6 PB11/SPI1_MOSI/GPT0_CH2/OPA1_INP1, 7 PB12(WKUP3)/ATIM_ETR/FOUT1, 8 PC6(WKUP4)/GPT1_ETR/ADC_IN11, 9 VDD15, 10 XT32KI/PD10, 11 XT32KO/PD9, 12 VSS, 13 VDD, 14 PD0/UART5_RX/ADC_IN3, 15 PD1/UART5_TX/ADC_IN4, 16 PD7/SWCLK, 17 PD8/SWIO, 18 NRST, 19 PA13/UART0_RX/LPUART0_RX/ADC_1N6, 20 PA14/UART0_TX/LPUART0_TX/ADC_IN7

## FM33LC0x3N
designator *
pins: 1 PD8/SWIO, 2 NRST, 3 PA13/UART0_RX/LPUART0_RX/ADC_1N6, 4 PA14/UART0_TX/LPUART0_TX/ADC_IN7, 5 PA15(WKUP0)/SVS/ADC_IN10, 6 PA8/SEG0/LPT32_CH1/COMP2_INP1, 7 PA9/SEG1/LPT32_CH2/COMP2_INP2, 8 PA10(WKUP1)/SEG2/LPT32_ETR/COMP1_INN1, 9 PB2(WKUP2)/UART4_RX/ATIM_CHIN, 10 PB3/UART4_TX/ATIM_CH2N, 11 PB8/SEG7/SPI1_SSN/ATIM_CH3N, 12 PB9/SEG8/SPI1_SCK/GPT0_ETR/ANATST, 13 PB10/SEG9/SPI1_MISO/GPT0_CH1/OPA1_INN1, 14 PB11/SEG10/SPI1_MOSI/GPT0_CH2/OPA1_INP1, 15 PB13/SEG11/UART1_RX/LPUART1_RX/OPA2_INN1, 16 PB14/SEG12/UART1_TX/LPUART1_TX/OPA2_INP1, 17 PC2/LPUART1_RX/XTHIN/UART1_RX, 18 PC3/LPUART1_TX/XTHOUT/UART1_TX, 19 PC4/SEG13/UART5_RX/OPA1_OUT, 20 PC5/SEG14/UART5_TX/OPA2_OUT, 21 PC8/SEG17/SPI2_SCK/ADC_IN9, 22 PC9/SEG18/SPI2_MISO/ADC_IN0, 23 PC10(WKUP5)/SEG19/SPI2_MOSI/ADC_IN1, 24 XT32KO/PD9, 25 XT32KI/PD10, 26 VDD15, 27 VSS, 28 VDD, 29 PD11(WKUP6)/ATIM_BRK1/FOUT0/ADC_IN2, 30 PD0/SEG22/UART5_RX/ADC_IN3, 31 PD1/SEG23/UART5_TX/ADC_IN4, 32 PD7/SWCLK

## FM33LC0x3U
designator *
pins: 1 PD8/SWIO, 2 NRST, 3 PA13/UART0_RX/LPUART0_RX/ADC_1N6, 4 PA14/UART0_TX/LPUART0_TX/ADC_IN7, 5 PA15(WKUP0)/SVS/ADC_IN10, 6 PA8/SEG0/LPT32_CH1/COMP2_INP1, 7 PA11/SCL, 8 PA12/SDA, 9 PB2(WKUP2)/UART4_RX/ATIM_CHIN, 10 PB3/UART4_TX/ATIM_CH2N, 11 PB8/SEG7/SPI1_SSN/ATIM_CH3N, 12 PB9/SEG8/SPI1_SCK/GPT0_ETR/ANATST, 13 PB10/SEG9/SPI1_MISO/GPT0_CH1/OPA1_INN1, 14 PB11/SEG10/SPI1_MOSI/GPT0_CH2/OPA1_INP1, 15 DP, 16 DM, 17 PC2/LPUART1_RX/XTHIN/UART1_RX, 18 PC3/LPUART1_TX/XTHOUT/UART1_TX, 19 PC4/SEG13/UART5_RX/OPA1_OUT, 20 PC5/SEG14/UART5_TX/OPA2_OUT, 21 PC8/SEG17/SPI2_SCK/ADC_IN9, 22 PC9/SEG18/SPI2_MISO/ADC_IN0, 23 PC10(WKUP5)/SEG19/SPI2_MOSI/ADC_IN1, 24 XT32KO/PD9, 25 XT32KI/PD10, 26 VDD15, 27 VSS, 28 VDD, 29 PD11(WKUP6)/ATIM_BRK1/FOUT0/ADC_IN2, 30 PD0/SEG22/UART5_RX/ADC_IN3, 31 PD1/SEG23/UART5_TX/ADC_IN4, 32 PD7/SWCLK

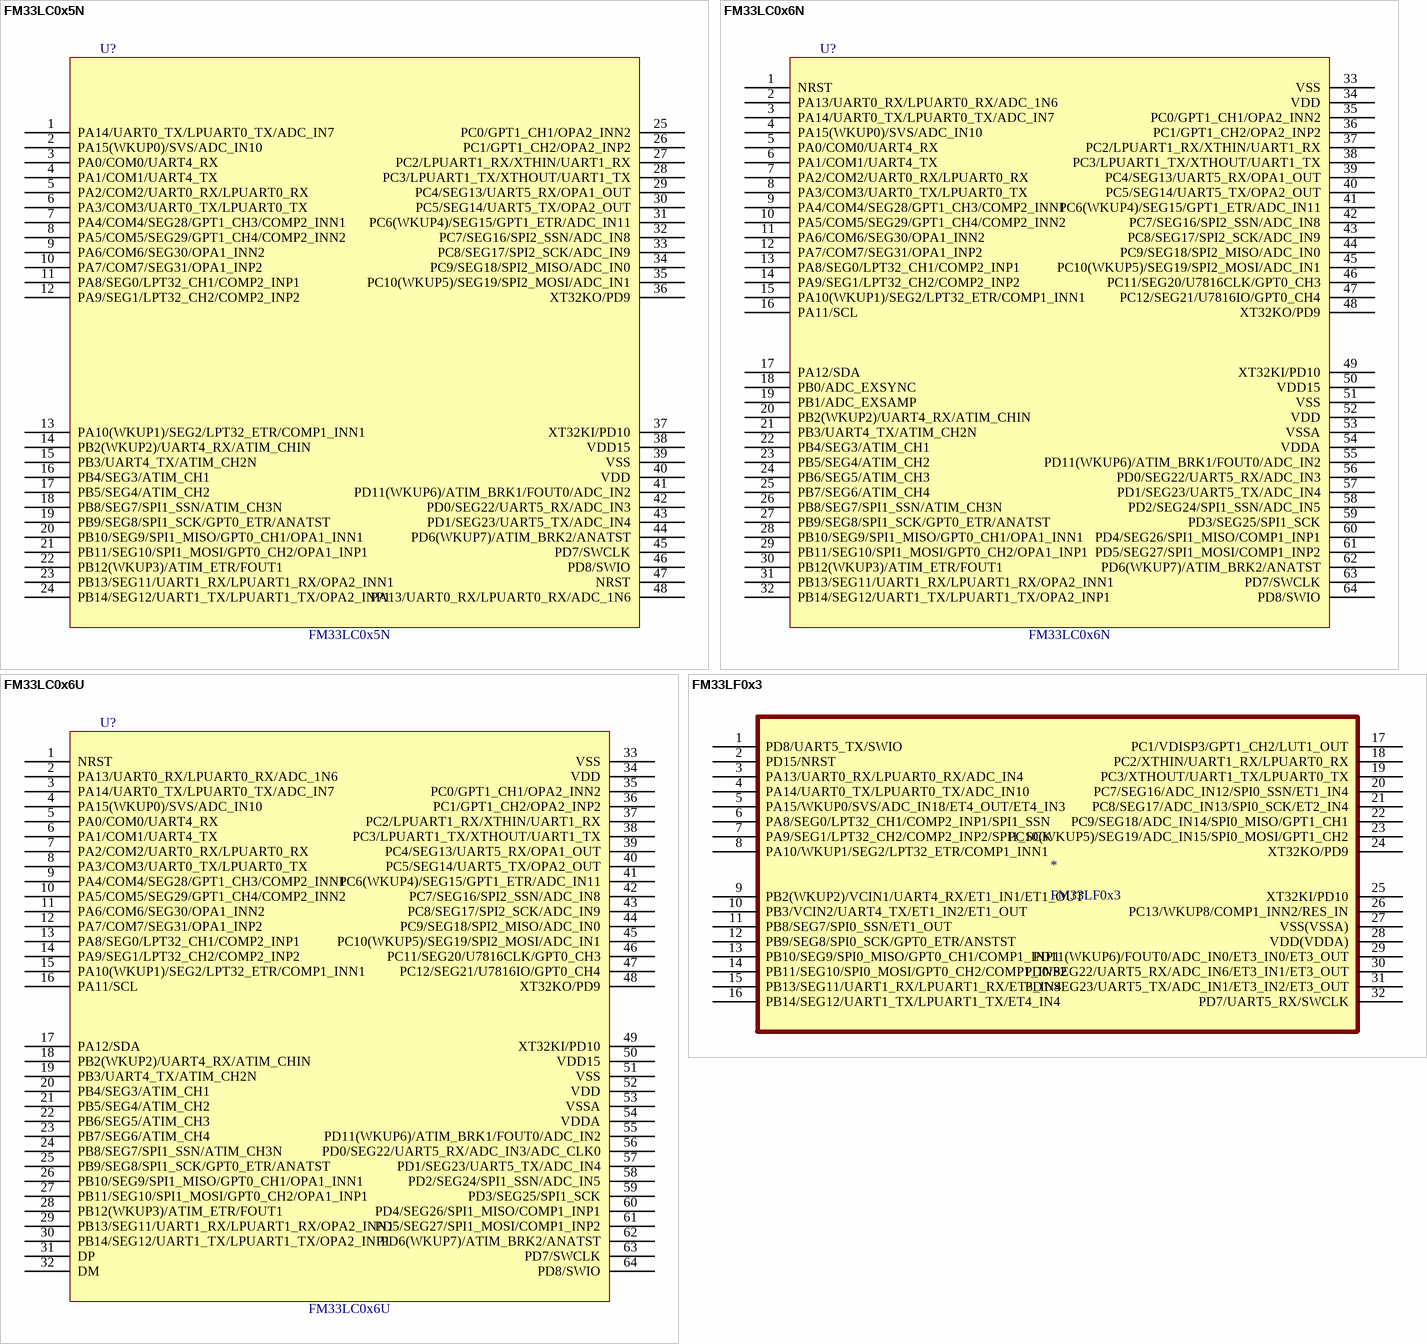
[diagram p4: symbols FM33LC0x5N to FM33LF0x3]

## FM33LC0x5N
designator U?
pins: 1 PA14/UART0_TX/LPUART0_TX/ADC_IN7, 2 PA15(WKUP0)/SVS/ADC_IN10, 3 PA0/COM0/UART4_RX, 4 PA1/COM1/UART4_TX, 5 PA2/COM2/UART0_RX/LPUART0_RX, 6 PA3/COM3/UART0_TX/LPUART0_TX, 7 PA4/COM4/SEG28/GPT1_CH3/COMP2_INN1, 8 PA5/COM5/SEG29/GPT1_CH4/COMP2_INN2, 9 PA6/COM6/SEG30/OPA1_INN2, 10 PA7/COM7/SEG31/OPA1_INP2, 11 PA8/SEG0/LPT32_CH1/COMP2_INP1, 12 PA9/SEG1/LPT32_CH2/COMP2_INP2, 13 PA10(WKUP1)/SEG2/LPT32_ETR/COMP1_INN1, 14 PB2(WKUP2)/UART4_RX/ATIM_CHIN, 15 PB3/UART4_TX/ATIM_CH2N, 16 PB4/SEG3/ATIM_CH1, 17 PB5/SEG4/ATIM_CH2, 18 PB8/SEG7/SPI1_SSN/ATIM_CH3N, 19 PB9/SEG8/SPI1_SCK/GPT0_ETR/ANATST  , 20 PB10/SEG9/SPI1_MISO/GPT0_CH1/OPA1_INN1, 21 PB11/SEG10/SPI1_MOSI/GPT0_CH2/OPA1_INP1, 22 PB12(WKUP3)/ATIM_ETR/FOUT1, 23 PB13/SEG11/UART1_RX/LPUART1_RX/OPA2_INN1, 24 PB14/SEG12/UART1_TX/LPUART1_TX/OPA2_INP1, 25 PC0/GPT1_CH1/OPA2_INN2, 26 PC1/GPT1_CH2/OPA2_INP2, 27 PC2/LPUART1_RX/XTHIN/UART1_RX, 28 PC3/LPUART1_TX/XTHOUT/UART1_TX, 29 PC4/SEG13/UART5_RX/OPA1_OUT, 30 PC5/SEG14/UART5_TX/OPA2_OUT, 31 PC6(WKUP4)/SEG15/GPT1_ETR/ADC_IN11, 32 PC7/SEG16/SPI2_SSN/ADC_IN8, 33 PC8/SEG17/SPI2_SCK/ADC_IN9, 34 PC9/SEG18/SPI2_MISO/ADC_IN0, 35 PC10(WKUP5)/SEG19/SPI2_MOSI/ADC_IN1, 36 XT32KO/PD9, 37 XT32KI/PD10, 38 VDD15, 39 VSS, 40 VDD, 41 PD11(WKUP6)/ATIM_BRK1/FOUT0/ADC_IN2, 42 PD0/SEG22/UART5_RX/ADC_IN3, 43 PD1/SEG23/UART5_TX/ADC_IN4, 44 PD6(WKUP7)/ATIM_BRK2/ANATST, 45 PD7/SWCLK, 46 PD8/SWIO, 47 NRST, 48 PA13/UART0_RX/LPUART0_RX/ADC_1N6

## FM33LC0x6N
designator U?
footprint LQFP64
pins: 1 NRST, 2 PA13/UART0_RX/LPUART0_RX/ADC_1N6, 3 PA14/UART0_TX/LPUART0_TX/ADC_IN7, 4 PA15(WKUP0)/SVS/ADC_IN10, 5 PA0/COM0/UART4_RX, 6 PA1/COM1/UART4_TX, 7 PA2/COM2/UART0_RX/LPUART0_RX, 8 PA3/COM3/UART0_TX/LPUART0_TX, 9 PA4/COM4/SEG28/GPT1_CH3/COMP2_INN1, 10 PA5/COM5/SEG29/GPT1_CH4/COMP2_INN2, 11 PA6/COM6/SEG30/OPA1_INN2, 12 PA7/COM7/SEG31/OPA1_INP2, 13 PA8/SEG0/LPT32_CH1/COMP2_INP1, 14 PA9/SEG1/LPT32_CH2/COMP2_INP2, 15 PA10(WKUP1)/SEG2/LPT32_ETR/COMP1_INN1, 16 PA11/SCL, 17 PA12/SDA, 18 PB0/ADC_EXSYNC, 19 PB1/ADC_EXSAMP, 20 PB2(WKUP2)/UART4_RX/ATIM_CHIN, 21 PB3/UART4_TX/ATIM_CH2N, 22 PB4/SEG3/ATIM_CH1, 23 PB5/SEG4/ATIM_CH2, 24 PB6/SEG5/ATIM_CH3, 25 PB7/SEG6/ATIM_CH4, 26 PB8/SEG7/SPI1_SSN/ATIM_CH3N, 27 PB9/SEG8/SPI1_SCK/GPT0_ETR/ANATST  , 28 PB10/SEG9/SPI1_MISO/GPT0_CH1/OPA1_INN1, 29 PB11/SEG10/SPI1_MOSI/GPT0_CH2/OPA1_INP1, 30 PB12(WKUP3)/ATIM_ETR/FOUT1, 31 PB13/SEG11/UART1_RX/LPUART1_RX/OPA2_INN1, 32 PB14/SEG12/UART1_TX/LPUART1_TX/OPA2_INP1, 33 VSS, 34 VDD, 35 PC0/GPT1_CH1/OPA2_INN2, 36 PC1/GPT1_CH2/OPA2_INP2, 37 PC2/LPUART1_RX/XTHIN/UART1_RX, 38 PC3/LPUART1_TX/XTHOUT/UART1_TX, 39 PC4/SEG13/UART5_RX/OPA1_OUT, 40 PC5/SEG14/UART5_TX/OPA2_OUT, 41 PC6(WKUP4)/SEG15/GPT1_ETR/ADC_IN11, 42 PC7/SEG16/SPI2_SSN/ADC_IN8, 43 PC8/SEG17/SPI2_SCK/ADC_IN9, 44 PC9/SEG18/SPI2_MISO/ADC_IN0, 45 PC10(WKUP5)/SEG19/SPI2_MOSI/ADC_IN1, 46 PC11/SEG20/U7816CLK/GPT0_CH3, 47 PC12/SEG21/U7816IO/GPT0_CH4, 48 XT32KO/PD9, 49 XT32KI/PD10, 50 VDD15, 51 VSS, 52 VDD, 53 VSSA, 54 VDDA, 55 PD11(WKUP6)/ATIM_BRK1/FOUT0/ADC_IN2, 56 PD0/SEG22/UART5_RX/ADC_IN3, 57 PD1/SEG23/UART5_TX/ADC_IN4, 58 PD2/SEG24/SPI1_SSN/ADC_IN5, 59 PD3/SEG25/SPI1_SCK, 60 PD4/SEG26/SPI1_MISO/COMP1_INP1, 61 PD5/SEG27/SPI1_MOSI/COMP1_INP2, 62 PD6(WKUP7)/ATIM_BRK2/ANATST, 63 PD7/SWCLK, 64 PD8/SWIO

## FM33LC0x6U
designator U?
footprint LQFP64
pins: 1 NRST, 2 PA13/UART0_RX/LPUART0_RX/ADC_1N6, 3 PA14/UART0_TX/LPUART0_TX/ADC_IN7, 4 PA15(WKUP0)/SVS/ADC_IN10, 5 PA0/COM0/UART4_RX, 6 PA1/COM1/UART4_TX, 7 PA2/COM2/UART0_RX/LPUART0_RX, 8 PA3/COM3/UART0_TX/LPUART0_TX, 9 PA4/COM4/SEG28/GPT1_CH3/COMP2_INN1, 10 PA5/COM5/SEG29/GPT1_CH4/COMP2_INN2, 11 PA6/COM6/SEG30/OPA1_INN2, 12 PA7/COM7/SEG31/OPA1_INP2, 13 PA8/SEG0/LPT32_CH1/COMP2_INP1, 14 PA9/SEG1/LPT32_CH2/COMP2_INP2, 15 PA10(WKUP1)/SEG2/LPT32_ETR/COMP1_INN1, 16 PA11/SCL, 17 PA12/SDA, 18 PB2(WKUP2)/UART4_RX/ATIM_CHIN, 19 PB3/UART4_TX/ATIM_CH2N, 20 PB4/SEG3/ATIM_CH1, 21 PB5/SEG4/ATIM_CH2, 22 PB6/SEG5/ATIM_CH3, 23 PB7/SEG6/ATIM_CH4, 24 PB8/SEG7/SPI1_SSN/ATIM_CH3N, 25 PB9/SEG8/SPI1_SCK/GPT0_ETR/ANATST  , 26 PB10/SEG9/SPI1_MISO/GPT0_CH1/OPA1_INN1, 27 PB11/SEG10/SPI1_MOSI/GPT0_CH2/OPA1_INP1, 28 PB12(WKUP3)/ATIM_ETR/FOUT1, 29 PB13/SEG11/UART1_RX/LPUART1_RX/OPA2_INN1, 30 PB14/SEG12/UART1_TX/LPUART1_TX/OPA2_INP1, 31 DP, 32 DM, 33 VSS, 34 VDD, 35 PC0/GPT1_CH1/OPA2_INN2, 36 PC1/GPT1_CH2/OPA2_INP2, 37 PC2/LPUART1_RX/XTHIN/UART1_RX, 38 PC3/LPUART1_TX/XTHOUT/UART1_TX, 39 PC4/SEG13/UART5_RX/OPA1_OUT, 40 PC5/SEG14/UART5_TX/OPA2_OUT, 41 PC6(WKUP4)/SEG15/GPT1_ETR/ADC_IN11, 42 PC7/SEG16/SPI2_SSN/ADC_IN8, 43 PC8/SEG17/SPI2_SCK/ADC_IN9, 44 PC9/SEG18/SPI2_MISO/ADC_IN0, 45 PC10(WKUP5)/SEG19/SPI2_MOSI/ADC_IN1, 46 PC11/SEG20/U7816CLK/GPT0_CH3, 47 PC12/SEG21/U7816IO/GPT0_CH4, 48 XT32KO/PD9, 49 XT32KI/PD10, 50 VDD15, 51 VSS, 52 VDD, 53 VSSA, 54 VDDA, 55 PD11(WKUP6)/ATIM_BRK1/FOUT0/ADC_IN2, 56 PD0/SEG22/UART5_RX/ADC_IN3/ADC_CLK0, 57 PD1/SEG23/UART5_TX/ADC_IN4, 58 PD2/SEG24/SPI1_SSN/ADC_IN5, 59 PD3/SEG25/SPI1_SCK, 60 PD4/SEG26/SPI1_MISO/COMP1_INP1, 61 PD5/SEG27/SPI1_MOSI/COMP1_INP2, 62 PD6(WKUP7)/ATIM_BRK2/ANATST, 63 PD7/SWCLK, 64 PD8/SWIO

## FM33LF0x3
designator *
pins: 1 PD8/UART5_TX/SWIO, 2 PD15/NRST, 3 PA13/UART0_RX/LPUART0_RX/ADC_IN4, 4 PA14/UART0_TX/LPUART0_TX/ADC_IN10, 5 PA15/WKUP0/SVS/ADC_IN18/ET4_OUT/ET4_IN3, 6 PA8/SEG0/LPT32_CH1/COMP2_INP1/SPI1_SSN, 7 PA9/SEG1/LPT32_CH2/COMP2_INP2/SPI1_SCK, 8 PA10/WKUP1/SEG2/LPT32_ETR/COMP1_INN1, 9 PB2(WKUP2)/VCIN1/UART4_RX/ET1_IN1/ET1_OUT, 10 PB3/VCIN2/UART4_TX/ET1_IN2/ET1_OUT, 11 PB8/SEG7/SPI0_SSN/ET1_OUT, 12 PB9/SEG8/SPI0_SCK/GPT0_ETR/ANSTST, 13 PB10/SEG9/SPI0_MISO/GPT0_CH1/COMP1_INP1, 14 PB11/SEG10/SPI0_MOSI/GPT0_CH2/COMP1_INP2, 15 PB13/SEG11/UART1_RX/LPUART1_RX/ET3_IN4, 16 PB14/SEG12/UART1_TX/LPUART1_TX/ET4_IN4, 17 PC1/VDISP3/GPT1_CH2/LUT1_OUT, 18 PC2/XTHIN/UART1_RX/LPUART0_RX, 19 PC3/XTHOUT/UART1_TX/LPUART0_TX, 20 PC7/SEG16/ADC_IN12/SPI0_SSN/ET1_IN4, 21 PC8/SEG17/ADC_IN13/SPI0_SCK/ET2_IN4, 22 PC9/SEG18/ADC_IN14/SPI0_MISO/GPT1_CH1, 23 PC10(WKUP5)/SEG19/ADC_IN15/SPI0_MOSI/GPT1_CH2, 24 XT32KO/PD9, 25 XT32KI/PD10, 26 PC13/WKUP8/COMP1_INN2/RES_IN, 27 VSS(VSSA), 28 VDD(VDDA), 29 PD11(WKUP6)/FOUT0/ADC_IN0/ET3_IN0/ET3_OUT, 30 PD0/SEG22/UART5_RX/ADC_IN6/ET3_IN1/ET3_OUT, 31 PD1/SEG23/UART5_TX/ADC_IN1/ET3_IN2/ET3_OUT, 32 PD7/UART5_RX/SWCLK

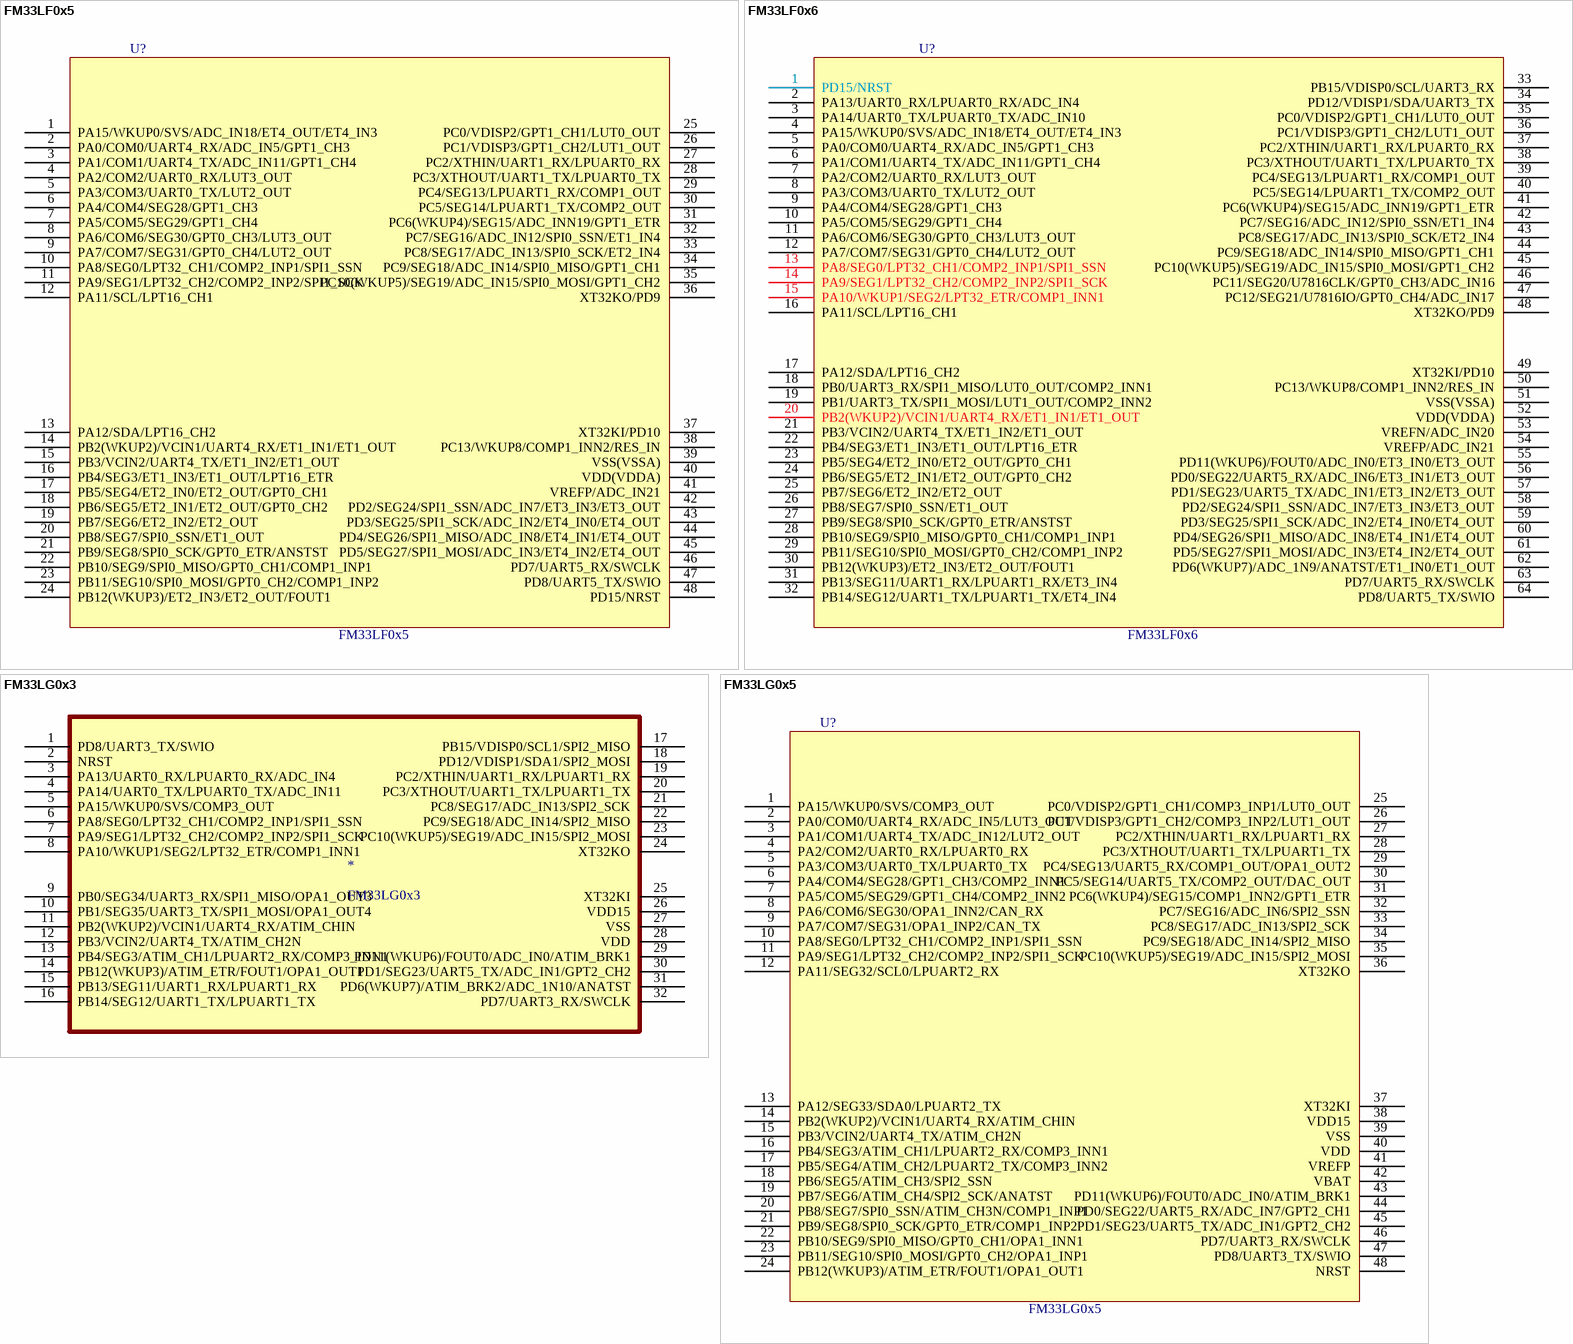
[diagram p5: symbols FM33LF0x5 to FM33LG0x5]

## FM33LF0x5
designator U?
pins: 1 PA15/WKUP0/SVS/ADC_IN18/ET4_OUT/ET4_IN3, 2 PA0/COM0/UART4_RX/ADC_IN5/GPT1_CH3, 3 PA1/COM1/UART4_TX/ADC_IN11/GPT1_CH4, 4 PA2/COM2/UART0_RX/LUT3_OUT, 5 PA3/COM3/UART0_TX/LUT2_OUT, 6 PA4/COM4/SEG28/GPT1_CH3, 7 PA5/COM5/SEG29/GPT1_CH4, 8 PA6/COM6/SEG30/GPT0_CH3/LUT3_OUT, 9 PA7/COM7/SEG31/GPT0_CH4/LUT2_OUT, 10 PA8/SEG0/LPT32_CH1/COMP2_INP1/SPI1_SSN, 11 PA9/SEG1/LPT32_CH2/COMP2_INP2/SPI1_SCK, 12 PA11/SCL/LPT16_CH1, 13 PA12/SDA/LPT16_CH2, 14 PB2(WKUP2)/VCIN1/UART4_RX/ET1_IN1/ET1_OUT, 15 PB3/VCIN2/UART4_TX/ET1_IN2/ET1_OUT, 16 PB4/SEG3/ET1_IN3/ET1_OUT/LPT16_ETR, 17 PB5/SEG4/ET2_IN0/ET2_OUT/GPT0_CH1, 18 PB6/SEG5/ET2_IN1/ET2_OUT/GPT0_CH2, 19 PB7/SEG6/ET2_IN2/ET2_OUT, 20 PB8/SEG7/SPI0_SSN/ET1_OUT, 21 PB9/SEG8/SPI0_SCK/GPT0_ETR/ANSTST, 22 PB10/SEG9/SPI0_MISO/GPT0_CH1/COMP1_INP1, 23 PB11/SEG10/SPI0_MOSI/GPT0_CH2/COMP1_INP2, 24 PB12(WKUP3)/ET2_IN3/ET2_OUT/FOUT1, 25 PC0/VDISP2/GPT1_CH1/LUT0_OUT, 26 PC1/VDISP3/GPT1_CH2/LUT1_OUT, 27 PC2/XTHIN/UART1_RX/LPUART0_RX, 28 PC3/XTHOUT/UART1_TX/LPUART0_TX, 29 PC4/SEG13/LPUART1_RX/COMP1_OUT, 30 PC5/SEG14/LPUART1_TX/COMP2_OUT, 31 PC6(WKUP4)/SEG15/ADC_INN19/GPT1_ETR, 32 PC7/SEG16/ADC_IN12/SPI0_SSN/ET1_IN4, 33 PC8/SEG17/ADC_IN13/SPI0_SCK/ET2_IN4, 34 PC9/SEG18/ADC_IN14/SPI0_MISO/GPT1_CH1, 35 PC10(WKUP5)/SEG19/ADC_IN15/SPI0_MOSI/GPT1_CH2, 36 XT32KO/PD9, 37 XT32KI/PD10, 38 PC13/WKUP8/COMP1_INN2/RES_IN, 39 VSS(VSSA), 40 VDD(VDDA), 41 VREFP/ADC_IN21, 42 PD2/SEG24/SPI1_SSN/ADC_IN7/ET3_IN3/ET3_OUT, 43 PD3/SEG25/SPI1_SCK/ADC_IN2/ET4_IN0/ET4_OUT, 44 PD4/SEG26/SPI1_MISO/ADC_IN8/ET4_IN1/ET4_OUT, 45 PD5/SEG27/SPI1_MOSI/ADC_IN3/ET4_IN2/ET4_OUT, 46 PD7/UART5_RX/SWCLK, 47 PD8/UART5_TX/SWIO, 48 PD15/NRST

## FM33LF0x6
designator U?
footprint LQFP64
pins: 1 PD15/NRST, 2 PA13/UART0_RX/LPUART0_RX/ADC_IN4, 3 PA14/UART0_TX/LPUART0_TX/ADC_IN10, 4 PA15/WKUP0/SVS/ADC_IN18/ET4_OUT/ET4_IN3, 5 PA0/COM0/UART4_RX/ADC_IN5/GPT1_CH3, 6 PA1/COM1/UART4_TX/ADC_IN11/GPT1_CH4, 7 PA2/COM2/UART0_RX/LUT3_OUT, 8 PA3/COM3/UART0_TX/LUT2_OUT, 9 PA4/COM4/SEG28/GPT1_CH3, 10 PA5/COM5/SEG29/GPT1_CH4, 11 PA6/COM6/SEG30/GPT0_CH3/LUT3_OUT, 12 PA7/COM7/SEG31/GPT0_CH4/LUT2_OUT, 13 PA8/SEG0/LPT32_CH1/COMP2_INP1/SPI1_SSN, 14 PA9/SEG1/LPT32_CH2/COMP2_INP2/SPI1_SCK, 15 PA10/WKUP1/SEG2/LPT32_ETR/COMP1_INN1, 16 PA11/SCL/LPT16_CH1, 17 PA12/SDA/LPT16_CH2, 18 PB0/UART3_RX/SPI1_MISO/LUT0_OUT/COMP2_INN1, 19 PB1/UART3_TX/SPI1_MOSI/LUT1_OUT/COMP2_INN2, 20 PB2(WKUP2)/VCIN1/UART4_RX/ET1_IN1/ET1_OUT, 21 PB3/VCIN2/UART4_TX/ET1_IN2/ET1_OUT, 22 PB4/SEG3/ET1_IN3/ET1_OUT/LPT16_ETR, 23 PB5/SEG4/ET2_IN0/ET2_OUT/GPT0_CH1, 24 PB6/SEG5/ET2_IN1/ET2_OUT/GPT0_CH2, 25 PB7/SEG6/ET2_IN2/ET2_OUT, 26 PB8/SEG7/SPI0_SSN/ET1_OUT, 27 PB9/SEG8/SPI0_SCK/GPT0_ETR/ANSTST, 28 PB10/SEG9/SPI0_MISO/GPT0_CH1/COMP1_INP1, 29 PB11/SEG10/SPI0_MOSI/GPT0_CH2/COMP1_INP2, 30 PB12(WKUP3)/ET2_IN3/ET2_OUT/FOUT1, 31 PB13/SEG11/UART1_RX/LPUART1_RX/ET3_IN4, 32 PB14/SEG12/UART1_TX/LPUART1_TX/ET4_IN4, 33 PB15/VDISP0/SCL/UART3_RX, 34 PD12/VDISP1/SDA/UART3_TX, 35 PC0/VDISP2/GPT1_CH1/LUT0_OUT, 36 PC1/VDISP3/GPT1_CH2/LUT1_OUT, 37 PC2/XTHIN/UART1_RX/LPUART0_RX, 38 PC3/XTHOUT/UART1_TX/LPUART0_TX, 39 PC4/SEG13/LPUART1_RX/COMP1_OUT, 40 PC5/SEG14/LPUART1_TX/COMP2_OUT, 41 PC6(WKUP4)/SEG15/ADC_INN19/GPT1_ETR, 42 PC7/SEG16/ADC_IN12/SPI0_SSN/ET1_IN4, 43 PC8/SEG17/ADC_IN13/SPI0_SCK/ET2_IN4, 44 PC9/SEG18/ADC_IN14/SPI0_MISO/GPT1_CH1, 45 PC10(WKUP5)/SEG19/ADC_IN15/SPI0_MOSI/GPT1_CH2, 46 PC11/SEG20/U7816CLK/GPT0_CH3/ADC_IN16, 47 PC12/SEG21/U7816IO/GPT0_CH4/ADC_IN17, 48 XT32KO/PD9, 49 XT32KI/PD10, 50 PC13/WKUP8/COMP1_INN2/RES_IN, 51 VSS(VSSA), 52 VDD(VDDA), 53 VREFN/ADC_IN20, 54 VREFP/ADC_IN21, 55 PD11(WKUP6)/FOUT0/ADC_IN0/ET3_IN0/ET3_OUT, 56 PD0/SEG22/UART5_RX/ADC_IN6/ET3_IN1/ET3_OUT, 57 PD1/SEG23/UART5_TX/ADC_IN1/ET3_IN2/ET3_OUT, 58 PD2/SEG24/SPI1_SSN/ADC_IN7/ET3_IN3/ET3_OUT, 59 PD3/SEG25/SPI1_SCK/ADC_IN2/ET4_IN0/ET4_OUT, 60 PD4/SEG26/SPI1_MISO/ADC_IN8/ET4_IN1/ET4_OUT, 61 PD5/SEG27/SPI1_MOSI/ADC_IN3/ET4_IN2/ET4_OUT, 62 PD6(WKUP7)/ADC_1N9/ANATST/ET1_IN0/ET1_OUT, 63 PD7/UART5_RX/SWCLK, 64 PD8/UART5_TX/SWIO

## FM33LG0x3
designator *
pins: 1 PD8/UART3_TX/SWIO, 2 NRST, 3 PA13/UART0_RX/LPUART0_RX/ADC_IN4, 4 PA14/UART0_TX/LPUART0_TX/ADC_IN11, 5 PA15/WKUP0/SVS/COMP3_OUT, 6 PA8/SEG0/LPT32_CH1/COMP2_INP1/SPI1_SSN, 7 PA9/SEG1/LPT32_CH2/COMP2_INP2/SPI1_SCK, 8 PA10/WKUP1/SEG2/LPT32_ETR/COMP1_INN1, 9 PB0/SEG34/UART3_RX/SPI1_MISO/OPA1_OUT3, 10 PB1/SEG35/UART3_TX/SPI1_MOSI/OPA1_OUT4, 11 PB2(WKUP2)/VCIN1/UART4_RX/ATIM_CHIN, 12 PB3/VCIN2/UART4_TX/ATIM_CH2N, 13 PB4/SEG3/ATIM_CH1/LPUART2_RX/COMP3_INN1, 14 PB12(WKUP3)/ATIM_ETR/FOUT1/OPA1_OUT1, 15 PB13/SEG11/UART1_RX/LPUART1_RX, 16 PB14/SEG12/UART1_TX/LPUART1_TX, 17 PB15/VDISP0/SCL1/SPI2_MISO, 18 PD12/VDISP1/SDA1/SPI2_MOSI, 19 PC2/XTHIN/UART1_RX/LPUART1_RX, 20 PC3/XTHOUT/UART1_TX/LPUART1_TX, 21 PC8/SEG17/ADC_IN13/SPI2_SCK, 22 PC9/SEG18/ADC_IN14/SPI2_MISO, 23 PC10(WKUP5)/SEG19/ADC_IN15/SPI2_MOSI, 24 XT32KO, 25 XT32KI, 26 VDD15, 27 VSS, 28 VDD, 29 PD11(WKUP6)/FOUT0/ADC_IN0/ATIM_BRK1, 30 PD1/SEG23/UART5_TX/ADC_IN1/GPT2_CH2, 31 PD6(WKUP7)/ATIM_BRK2/ADC_1N10/ANATST, 32 PD7/UART3_RX/SWCLK

## FM33LG0x5
designator U?
pins: 1 PA15/WKUP0/SVS/COMP3_OUT, 2 PA0/COM0/UART4_RX/ADC_IN5/LUT3_OUT, 3 PA1/COM1/UART4_TX/ADC_IN12/LUT2_OUT, 4 PA2/COM2/UART0_RX/LPUART0_RX, 5 PA3/COM3/UART0_TX/LPUART0_TX, 6 PA4/COM4/SEG28/GPT1_CH3/COMP2_INN1, 7 PA5/COM5/SEG29/GPT1_CH4/COMP2_INN2, 8 PA6/COM6/SEG30/OPA1_INN2/CAN_RX, 9 PA7/COM7/SEG31/OPA1_INP2/CAN_TX, 10 PA8/SEG0/LPT32_CH1/COMP2_INP1/SPI1_SSN, 11 PA9/SEG1/LPT32_CH2/COMP2_INP2/SPI1_SCK, 12 PA11/SEG32/SCL0/LPUART2_RX, 13 PA12/SEG33/SDA0/LPUART2_TX, 14 PB2(WKUP2)/VCIN1/UART4_RX/ATIM_CHIN, 15 PB3/VCIN2/UART4_TX/ATIM_CH2N, 16 PB4/SEG3/ATIM_CH1/LPUART2_RX/COMP3_INN1, 17 PB5/SEG4/ATIM_CH2/LPUART2_TX/COMP3_INN2, 18 PB6/SEG5/ATIM_CH3/SPI2_SSN, 19 PB7/SEG6/ATIM_CH4/SPI2_SCK/ANATST, 20 PB8/SEG7/SPI0_SSN/ATIM_CH3N/COMP1_INP1, 21 PB9/SEG8/SPI0_SCK/GPT0_ETR/COMP1_INP2, 22 PB10/SEG9/SPI0_MISO/GPT0_CH1/OPA1_INN1, 23 PB11/SEG10/SPI0_MOSI/GPT0_CH2/OPA1_INP1, 24 PB12(WKUP3)/ATIM_ETR/FOUT1/OPA1_OUT1, 25 PC0/VDISP2/GPT1_CH1/COMP3_INP1/LUT0_OUT, 26 PC1/VDISP3/GPT1_CH2/COMP3_INP2/LUT1_OUT, 27 PC2/XTHIN/UART1_RX/LPUART1_RX, 28 PC3/XTHOUT/UART1_TX/LPUART1_TX, 29 PC4/SEG13/UART5_RX/COMP1_OUT/OPA1_OUT2, 30 PC5/SEG14/UART5_TX/COMP2_OUT/DAC_OUT, 31 PC6(WKUP4)/SEG15/COMP1_INN2/GPT1_ETR, 32 PC7/SEG16/ADC_IN6/SPI2_SSN, 33 PC8/SEG17/ADC_IN13/SPI2_SCK, 34 PC9/SEG18/ADC_IN14/SPI2_MISO, 35 PC10(WKUP5)/SEG19/ADC_IN15/SPI2_MOSI, 36 XT32KO, 37 XT32KI, 38 VDD15, 39 VSS, 40 VDD, 41 VREFP, 42 VBAT, 43 PD11(WKUP6)/FOUT0/ADC_IN0/ATIM_BRK1, 44 PD0/SEG22/UART5_RX/ADC_IN7/GPT2_CH1, 45 PD1/SEG23/UART5_TX/ADC_IN1/GPT2_CH2, 46 PD7/UART3_RX/SWCLK, 47 PD8/UART3_TX/SWIO, 48 NRST

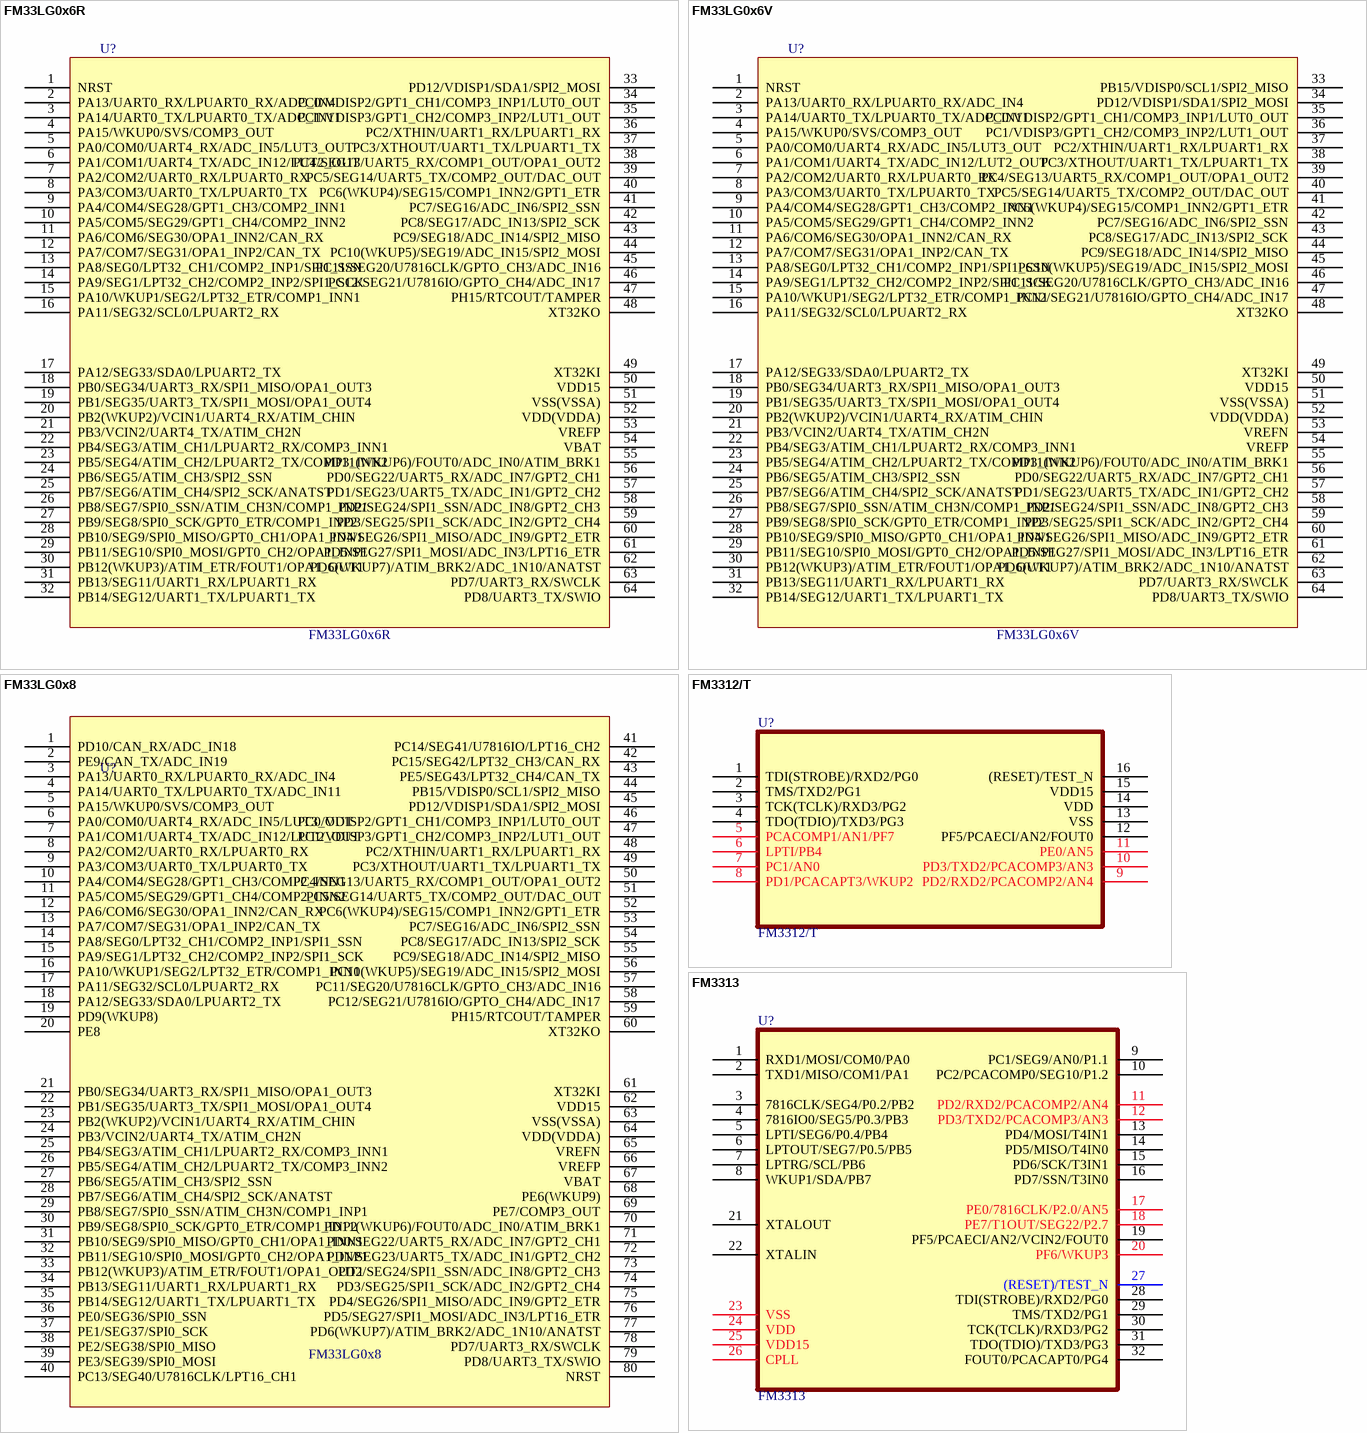
[diagram p6: symbols FM33LG0x6R to FM3313]

## FM33LG0x6R
designator U?
footprint LQFP64
pins: 1 NRST, 2 PA13/UART0_RX/LPUART0_RX/ADC_IN4, 3 PA14/UART0_TX/LPUART0_TX/ADC_IN11, 4 PA15/WKUP0/SVS/COMP3_OUT, 5 PA0/COM0/UART4_RX/ADC_IN5/LUT3_OUT, 6 PA1/COM1/UART4_TX/ADC_IN12/LUT2_OUT, 7 PA2/COM2/UART0_RX/LPUART0_RX, 8 PA3/COM3/UART0_TX/LPUART0_TX, 9 PA4/COM4/SEG28/GPT1_CH3/COMP2_INN1, 10 PA5/COM5/SEG29/GPT1_CH4/COMP2_INN2, 11 PA6/COM6/SEG30/OPA1_INN2/CAN_RX, 12 PA7/COM7/SEG31/OPA1_INP2/CAN_TX, 13 PA8/SEG0/LPT32_CH1/COMP2_INP1/SPI1_SSN, 14 PA9/SEG1/LPT32_CH2/COMP2_INP2/SPI1_SCK, 15 PA10/WKUP1/SEG2/LPT32_ETR/COMP1_INN1, 16 PA11/SEG32/SCL0/LPUART2_RX, 17 PA12/SEG33/SDA0/LPUART2_TX, 18 PB0/SEG34/UART3_RX/SPI1_MISO/OPA1_OUT3, 19 PB1/SEG35/UART3_TX/SPI1_MOSI/OPA1_OUT4, 20 PB2(WKUP2)/VCIN1/UART4_RX/ATIM_CHIN, 21 PB3/VCIN2/UART4_TX/ATIM_CH2N, 22 PB4/SEG3/ATIM_CH1/LPUART2_RX/COMP3_INN1, 23 PB5/SEG4/ATIM_CH2/LPUART2_TX/COMP3_INN2, 24 PB6/SEG5/ATIM_CH3/SPI2_SSN, 25 PB7/SEG6/ATIM_CH4/SPI2_SCK/ANATST, 26 PB8/SEG7/SPI0_SSN/ATIM_CH3N/COMP1_INP1, 27 PB9/SEG8/SPI0_SCK/GPT0_ETR/COMP1_INP2, 28 PB10/SEG9/SPI0_MISO/GPT0_CH1/OPA1_INN1, 29 PB11/SEG10/SPI0_MOSI/GPT0_CH2/OPA1_INP1, 30 PB12(WKUP3)/ATIM_ETR/FOUT1/OPA1_OUT1, 31 PB13/SEG11/UART1_RX/LPUART1_RX, 32 PB14/SEG12/UART1_TX/LPUART1_TX, 33 PD12/VDISP1/SDA1/SPI2_MOSI, 34 PC0/VDISP2/GPT1_CH1/COMP3_INP1/LUT0_OUT, 35 PC1/VDISP3/GPT1_CH2/COMP3_INP2/LUT1_OUT, 36 PC2/XTHIN/UART1_RX/LPUART1_RX, 37 PC3/XTHOUT/UART1_TX/LPUART1_TX, 38 PC4/SEG13/UART5_RX/COMP1_OUT/OPA1_OUT2, 39 PC5/SEG14/UART5_TX/COMP2_OUT/DAC_OUT, 40 PC6(WKUP4)/SEG15/COMP1_INN2/GPT1_ETR, 41 PC7/SEG16/ADC_IN6/SPI2_SSN, 42 PC8/SEG17/ADC_IN13/SPI2_SCK, 43 PC9/SEG18/ADC_IN14/SPI2_MISO, 44 PC10(WKUP5)/SEG19/ADC_IN15/SPI2_MOSI, 45 PC11/SEG20/U7816CLK/GPTO_CH3/ADC_IN16, 46 PC12/SEG21/U7816IO/GPTO_CH4/ADC_IN17, 47 PH15/RTCOUT/TAMPER, 48 XT32KO, 49 XT32KI, 50 VDD15, 51 VSS(VSSA), 52 VDD(VDDA), 53 VREFP, 54 VBAT, 55 PD11(WKUP6)/FOUT0/ADC_IN0/ATIM_BRK1, 56 PD0/SEG22/UART5_RX/ADC_IN7/GPT2_CH1, 57 PD1/SEG23/UART5_TX/ADC_IN1/GPT2_CH2, 58 PD2/SEG24/SPI1_SSN/ADC_IN8/GPT2_CH3, 59 PD3/SEG25/SPI1_SCK/ADC_IN2/GPT2_CH4, 60 PD4/SEG26/SPI1_MISO/ADC_IN9/GPT2_ETR, 61 PD5/SEG27/SPI1_MOSI/ADC_IN3/LPT16_ETR, 62 PD6(WKUP7)/ATIM_BRK2/ADC_1N10/ANATST, 63 PD7/UART3_RX/SWCLK, 64 PD8/UART3_TX/SWIO

## FM33LG0x6V
designator U?
footprint LQFP64
pins: 1 NRST, 2 PA13/UART0_RX/LPUART0_RX/ADC_IN4, 3 PA14/UART0_TX/LPUART0_TX/ADC_IN11, 4 PA15/WKUP0/SVS/COMP3_OUT, 5 PA0/COM0/UART4_RX/ADC_IN5/LUT3_OUT, 6 PA1/COM1/UART4_TX/ADC_IN12/LUT2_OUT, 7 PA2/COM2/UART0_RX/LPUART0_RX, 8 PA3/COM3/UART0_TX/LPUART0_TX, 9 PA4/COM4/SEG28/GPT1_CH3/COMP2_INN1, 10 PA5/COM5/SEG29/GPT1_CH4/COMP2_INN2, 11 PA6/COM6/SEG30/OPA1_INN2/CAN_RX, 12 PA7/COM7/SEG31/OPA1_INP2/CAN_TX, 13 PA8/SEG0/LPT32_CH1/COMP2_INP1/SPI1_SSN, 14 PA9/SEG1/LPT32_CH2/COMP2_INP2/SPI1_SCK, 15 PA10/WKUP1/SEG2/LPT32_ETR/COMP1_INN1, 16 PA11/SEG32/SCL0/LPUART2_RX, 17 PA12/SEG33/SDA0/LPUART2_TX, 18 PB0/SEG34/UART3_RX/SPI1_MISO/OPA1_OUT3, 19 PB1/SEG35/UART3_TX/SPI1_MOSI/OPA1_OUT4, 20 PB2(WKUP2)/VCIN1/UART4_RX/ATIM_CHIN, 21 PB3/VCIN2/UART4_TX/ATIM_CH2N, 22 PB4/SEG3/ATIM_CH1/LPUART2_RX/COMP3_INN1, 23 PB5/SEG4/ATIM_CH2/LPUART2_TX/COMP3_INN2, 24 PB6/SEG5/ATIM_CH3/SPI2_SSN, 25 PB7/SEG6/ATIM_CH4/SPI2_SCK/ANATST, 26 PB8/SEG7/SPI0_SSN/ATIM_CH3N/COMP1_INP1, 27 PB9/SEG8/SPI0_SCK/GPT0_ETR/COMP1_INP2, 28 PB10/SEG9/SPI0_MISO/GPT0_CH1/OPA1_INN1, 29 PB11/SEG10/SPI0_MOSI/GPT0_CH2/OPA1_INP1, 30 PB12(WKUP3)/ATIM_ETR/FOUT1/OPA1_OUT1, 31 PB13/SEG11/UART1_RX/LPUART1_RX, 32 PB14/SEG12/UART1_TX/LPUART1_TX, 33 PB15/VDISP0/SCL1/SPI2_MISO, 34 PD12/VDISP1/SDA1/SPI2_MOSI, 35 PC0/VDISP2/GPT1_CH1/COMP3_INP1/LUT0_OUT, 36 PC1/VDISP3/GPT1_CH2/COMP3_INP2/LUT1_OUT, 37 PC2/XTHIN/UART1_RX/LPUART1_RX, 38 PC3/XTHOUT/UART1_TX/LPUART1_TX, 39 PC4/SEG13/UART5_RX/COMP1_OUT/OPA1_OUT2, 40 PC5/SEG14/UART5_TX/COMP2_OUT/DAC_OUT, 41 PC6(WKUP4)/SEG15/COMP1_INN2/GPT1_ETR, 42 PC7/SEG16/ADC_IN6/SPI2_SSN, 43 PC8/SEG17/ADC_IN13/SPI2_SCK, 44 PC9/SEG18/ADC_IN14/SPI2_MISO, 45 PC10(WKUP5)/SEG19/ADC_IN15/SPI2_MOSI, 46 PC11/SEG20/U7816CLK/GPTO_CH3/ADC_IN16, 47 PC12/SEG21/U7816IO/GPTO_CH4/ADC_IN17, 48 XT32KO, 49 XT32KI, 50 VDD15, 51 VSS(VSSA), 52 VDD(VDDA), 53 VREFN, 54 VREFP, 55 PD11(WKUP6)/FOUT0/ADC_IN0/ATIM_BRK1, 56 PD0/SEG22/UART5_RX/ADC_IN7/GPT2_CH1, 57 PD1/SEG23/UART5_TX/ADC_IN1/GPT2_CH2, 58 PD2/SEG24/SPI1_SSN/ADC_IN8/GPT2_CH3, 59 PD3/SEG25/SPI1_SCK/ADC_IN2/GPT2_CH4, 60 PD4/SEG26/SPI1_MISO/ADC_IN9/GPT2_ETR, 61 PD5/SEG27/SPI1_MOSI/ADC_IN3/LPT16_ETR, 62 PD6(WKUP7)/ATIM_BRK2/ADC_1N10/ANATST, 63 PD7/UART3_RX/SWCLK, 64 PD8/UART3_TX/SWIO

## FM33LG0x8
designator U?
footprint LQFP64
footprint LQFP80
pins: 1 PD10/CAN_RX/ADC_IN18, 2 PE9/CAN_TX/ADC_IN19, 3 PA13/UART0_RX/LPUART0_RX/ADC_IN4, 4 PA14/UART0_TX/LPUART0_TX/ADC_IN11, 5 PA15/WKUP0/SVS/COMP3_OUT, 6 PA0/COM0/UART4_RX/ADC_IN5/LUT3_OUT, 7 PA1/COM1/UART4_TX/ADC_IN12/LUT2_OUT, 8 PA2/COM2/UART0_RX/LPUART0_RX, 9 PA3/COM3/UART0_TX/LPUART0_TX, 10 PA4/COM4/SEG28/GPT1_CH3/COMP2_INN1, 11 PA5/COM5/SEG29/GPT1_CH4/COMP2_INN2, 12 PA6/COM6/SEG30/OPA1_INN2/CAN_RX, 13 PA7/COM7/SEG31/OPA1_INP2/CAN_TX, 14 PA8/SEG0/LPT32_CH1/COMP2_INP1/SPI1_SSN, 15 PA9/SEG1/LPT32_CH2/COMP2_INP2/SPI1_SCK, 16 PA10/WKUP1/SEG2/LPT32_ETR/COMP1_INN1, 17 PA11/SEG32/SCL0/LPUART2_RX, 18 PA12/SEG33/SDA0/LPUART2_TX, 19 PD9(WKUP8), 20 PE8, 21 PB0/SEG34/UART3_RX/SPI1_MISO/OPA1_OUT3, 22 PB1/SEG35/UART3_TX/SPI1_MOSI/OPA1_OUT4, 23 PB2(WKUP2)/VCIN1/UART4_RX/ATIM_CHIN, 24 PB3/VCIN2/UART4_TX/ATIM_CH2N, 25 PB4/SEG3/ATIM_CH1/LPUART2_RX/COMP3_INN1, 26 PB5/SEG4/ATIM_CH2/LPUART2_TX/COMP3_INN2, 27 PB6/SEG5/ATIM_CH3/SPI2_SSN, 28 PB7/SEG6/ATIM_CH4/SPI2_SCK/ANATST, 29 PB8/SEG7/SPI0_SSN/ATIM_CH3N/COMP1_INP1, 30 PB9/SEG8/SPI0_SCK/GPT0_ETR/COMP1_INP2, 31 PB10/SEG9/SPI0_MISO/GPT0_CH1/OPA1_INN1, 32 PB11/SEG10/SPI0_MOSI/GPT0_CH2/OPA1_INP1, 33 PB12(WKUP3)/ATIM_ETR/FOUT1/OPA1_OUT1, 34 PB13/SEG11/UART1_RX/LPUART1_RX, 35 PB14/SEG12/UART1_TX/LPUART1_TX, 36 PE0/SEG36/SPI0_SSN, 37 PE1/SEG37/SPI0_SCK, 38 PE2/SEG38/SPI0_MISO, 39 PE3/SEG39/SPI0_MOSI, 40 PC13/SEG40/U7816CLK/LPT16_CH1, 41 PC14/SEG41/U7816IO/LPT16_CH2, 42 PC15/SEG42/LPT32_CH3/CAN_RX, 43 PE5/SEG43/LPT32_CH4/CAN_TX, 44 PB15/VDISP0/SCL1/SPI2_MISO, 45 PD12/VDISP1/SDA1/SPI2_MOSI, 46 PC0/VDISP2/GPT1_CH1/COMP3_INP1/LUT0_OUT, 47 PC1/VDISP3/GPT1_CH2/COMP3_INP2/LUT1_OUT, 48 PC2/XTHIN/UART1_RX/LPUART1_RX, 49 PC3/XTHOUT/UART1_TX/LPUART1_TX, 50 PC4/SEG13/UART5_RX/COMP1_OUT/OPA1_OUT2, 51 PC5/SEG14/UART5_TX/COMP2_OUT/DAC_OUT, 52 PC6(WKUP4)/SEG15/COMP1_INN2/GPT1_ETR, 53 PC7/SEG16/ADC_IN6/SPI2_SSN, 54 PC8/SEG17/ADC_IN13/SPI2_SCK, 55 PC9/SEG18/ADC_IN14/SPI2_MISO, 56 PC10(WKUP5)/SEG19/ADC_IN15/SPI2_MOSI, 57 PC11/SEG20/U7816CLK/GPTO_CH3/ADC_IN16, 58 PC12/SEG21/U7816IO/GPTO_CH4/ADC_IN17, 59 PH15/RTCOUT/TAMPER, 60 XT32KO, 61 XT32KI, 62 VDD15, 63 VSS(VSSA), 64 VDD(VDDA), 65 VREFN, 66 VREFP "VREFN", 67 VBAT "VREFN", 68 PE6(WKUP9) "VREFN", 69 PE7/COMP3_OUT "VREFN", 70 PD11(WKUP6)/FOUT0/ADC_IN0/ATIM_BRK1 "VREFN", 71 PD0/SEG22/UART5_RX/ADC_IN7/GPT2_CH1 "VREFN", 72 PD1/SEG23/UART5_TX/ADC_IN1/GPT2_CH2 "VREFN", 73 PD2/SEG24/SPI1_SSN/ADC_IN8/GPT2_CH3 "VREFN", 74 PD3/SEG25/SPI1_SCK/ADC_IN2/GPT2_CH4 "VREFN", 75 PD4/SEG26/SPI1_MISO/ADC_IN9/GPT2_ETR "VREFN", 76 PD5/SEG27/SPI1_MOSI/ADC_IN3/LPT16_ETR "VREFN", 77 PD6(WKUP7)/ATIM_BRK2/ADC_1N10/ANATST "VREFN", 78 PD7/UART3_RX/SWCLK "VREFN", 79 PD8/UART3_TX/SWIO "VREFN", 80 NRST "VREFN"

## FM3312/T
designator U?
footprint SOP16
pins: 1 TDI(STROBE)/RXD2/PG0, 2 TMS/TXD2/PG1, 3 TCK(TCLK)/RXD3/PG2, 4 TDO(TDIO)/TXD3/PG3, 5 PCACOMP1/AN1/PF7, 6 LPTI/PB4, 7 PC1/AN0, 8 PD1/PCACAPT3/WKUP2, 9 PD2/RXD2/PCACOMP2/AN4, 10 PD3/TXD2/PCACOMP3/AN3, 11 PE0/AN5, 12 PF5/PCAECI/AN2/FOUT0, 13 VSS, 14 VDD, 15 VDD15, 16 (RESET)/TEST_N

## FM3313
designator U?
footprint QFN32
footprint QFN32B
pins: 1 RXD1/MOSI/COM0/PA0, 2 TXD1/MISO/COM1/PA1, 3 7816CLK/SEG4/P0.2/PB2, 4 7816IO0/SEG5/P0.3/PB3, 5 LPTI/SEG6/P0.4/PB4, 6 LPTOUT/SEG7/P0.5/PB5, 7 LPTRG/SCL/PB6, 8 WKUP1/SDA/PB7, 9 PC1/SEG9/AN0/P1.1, 10 PC2/PCACOMP0/SEG10/P1.2, 11 PD2/RXD2/PCACOMP2/AN4, 12 PD3/TXD2/PCACOMP3/AN3, 13 PD4/MOSI/T4IN1, 14 PD5/MISO/T4IN0, 15 PD6/SCK/T3IN1, 16 PD7/SSN/T3IN0, 17 PE0/7816CLK/P2.0/AN5, 18 PE7/T1OUT/SEG22/P2.7, 19 PF5/PCAECI/AN2/VCIN2/FOUT0, 20 PF6/WKUP3, 21 XTALOUT, 22 XTALIN, 23 VSS, 24 VDD, 25 VDD15, 26 CPLL, 27 (RESET)/TEST_N, 28 TDI(STROBE)/RXD2/PG0, 29 TMS/TXD2/PG1, 30 TCK(TCLK)/RXD3/PG2, 31 TDO(TDIO)/TXD3/PG3, 32 FOUT0/PCACAPT0/PG4

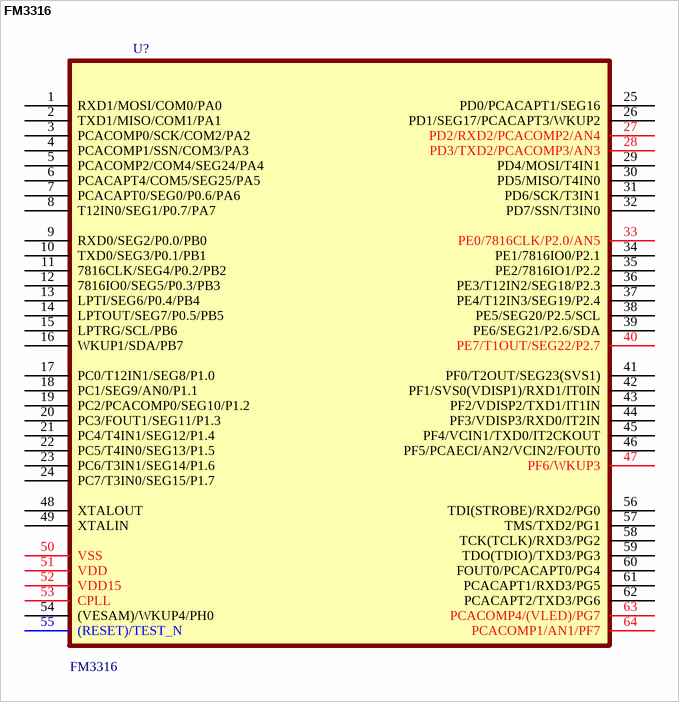
[diagram p7: symbol FM3316]

## FM3316
designator U?
footprint LQFP64
pins: 1 RXD1/MOSI/COM0/PA0, 2 TXD1/MISO/COM1/PA1, 3 PCACOMP0/SCK/COM2/PA2, 4 PCACOMP1/SSN/COM3/PA3, 5 PCACOMP2/COM4/SEG24/PA4, 6 PCACAPT4/COM5/SEG25/PA5, 7 PCACAPT0/SEG0/P0.6/PA6, 8 T12IN0/SEG1/P0.7/PA7, 9 RXD0/SEG2/P0.0/PB0, 10 TXD0/SEG3/P0.1/PB1, 11 7816CLK/SEG4/P0.2/PB2, 12 7816IO0/SEG5/P0.3/PB3, 13 LPTI/SEG6/P0.4/PB4, 14 LPTOUT/SEG7/P0.5/PB5, 15 LPTRG/SCL/PB6, 16 WKUP1/SDA/PB7, 17 PC0/T12IN1/SEG8/P1.0, 18 PC1/SEG9/AN0/P1.1, 19 PC2/PCACOMP0/SEG10/P1.2, 20 PC3/FOUT1/SEG11/P1.3, 21 PC4/T4IN1/SEG12/P1.4, 22 PC5/T4IN0/SEG13/P1.5, 23 PC6/T3IN1/SEG14/P1.6, 24 PC7/T3IN0/SEG15/P1.7, 25 PD0/PCACAPT1/SEG16, 26 PD1/SEG17/PCACAPT3/WKUP2, 27 PD2/RXD2/PCACOMP2/AN4, 28 PD3/TXD2/PCACOMP3/AN3, 29 PD4/MOSI/T4IN1, 30 PD5/MISO/T4IN0, 31 PD6/SCK/T3IN1, 32 PD7/SSN/T3IN0, 33 PE0/7816CLK/P2.0/AN5, 34 PE1/7816IO0/P2.1, 35 PE2/7816IO1/P2.2, 36 PE3/T12IN2/SEG18/P2.3, 37 PE4/T12IN3/SEG19/P2.4, 38 PE5/SEG20/P2.5/SCL, 39 PE6/SEG21/P2.6/SDA, 40 PE7/T1OUT/SEG22/P2.7, 41 PF0/T2OUT/SEG23(SVS1), 42 PF1/SVS0(VDISP1)/RXD1/IT0IN, 43 PF2/VDISP2/TXD1/IT1IN, 44 PF3/VDISP3/RXD0/IT2IN, 45 PF4/VCIN1/TXD0/IT2CKOUT, 46 PF5/PCAECI/AN2/VCIN2/FOUT0, 47 PF6/WKUP3, 48 XTALOUT, 49 XTALIN, 50 VSS, 51 VDD, 52 VDD15, 53 CPLL, 54 (VESAM)/WKUP4/PH0, 55 (RESET)/TEST_N, 56 TDI(STROBE)/RXD2/PG0, 57 TMS/TXD2/PG1, 58 TCK(TCLK)/RXD3/PG2, 59 TDO(TDIO)/TXD3/PG3, 60 FOUT0/PCACAPT0/PG4, 61 PCACAPT1/RXD3/PG5, 62 PCACAPT2/TXD3/PG6, 63 PCACOMP4/(VLED)/PG7, 64 PCACOMP1/AN1/PF7